# Altium schematic symbol library STMicroelectronics STM32 F3.SchLib: 37 symbols (part 4 of 5)
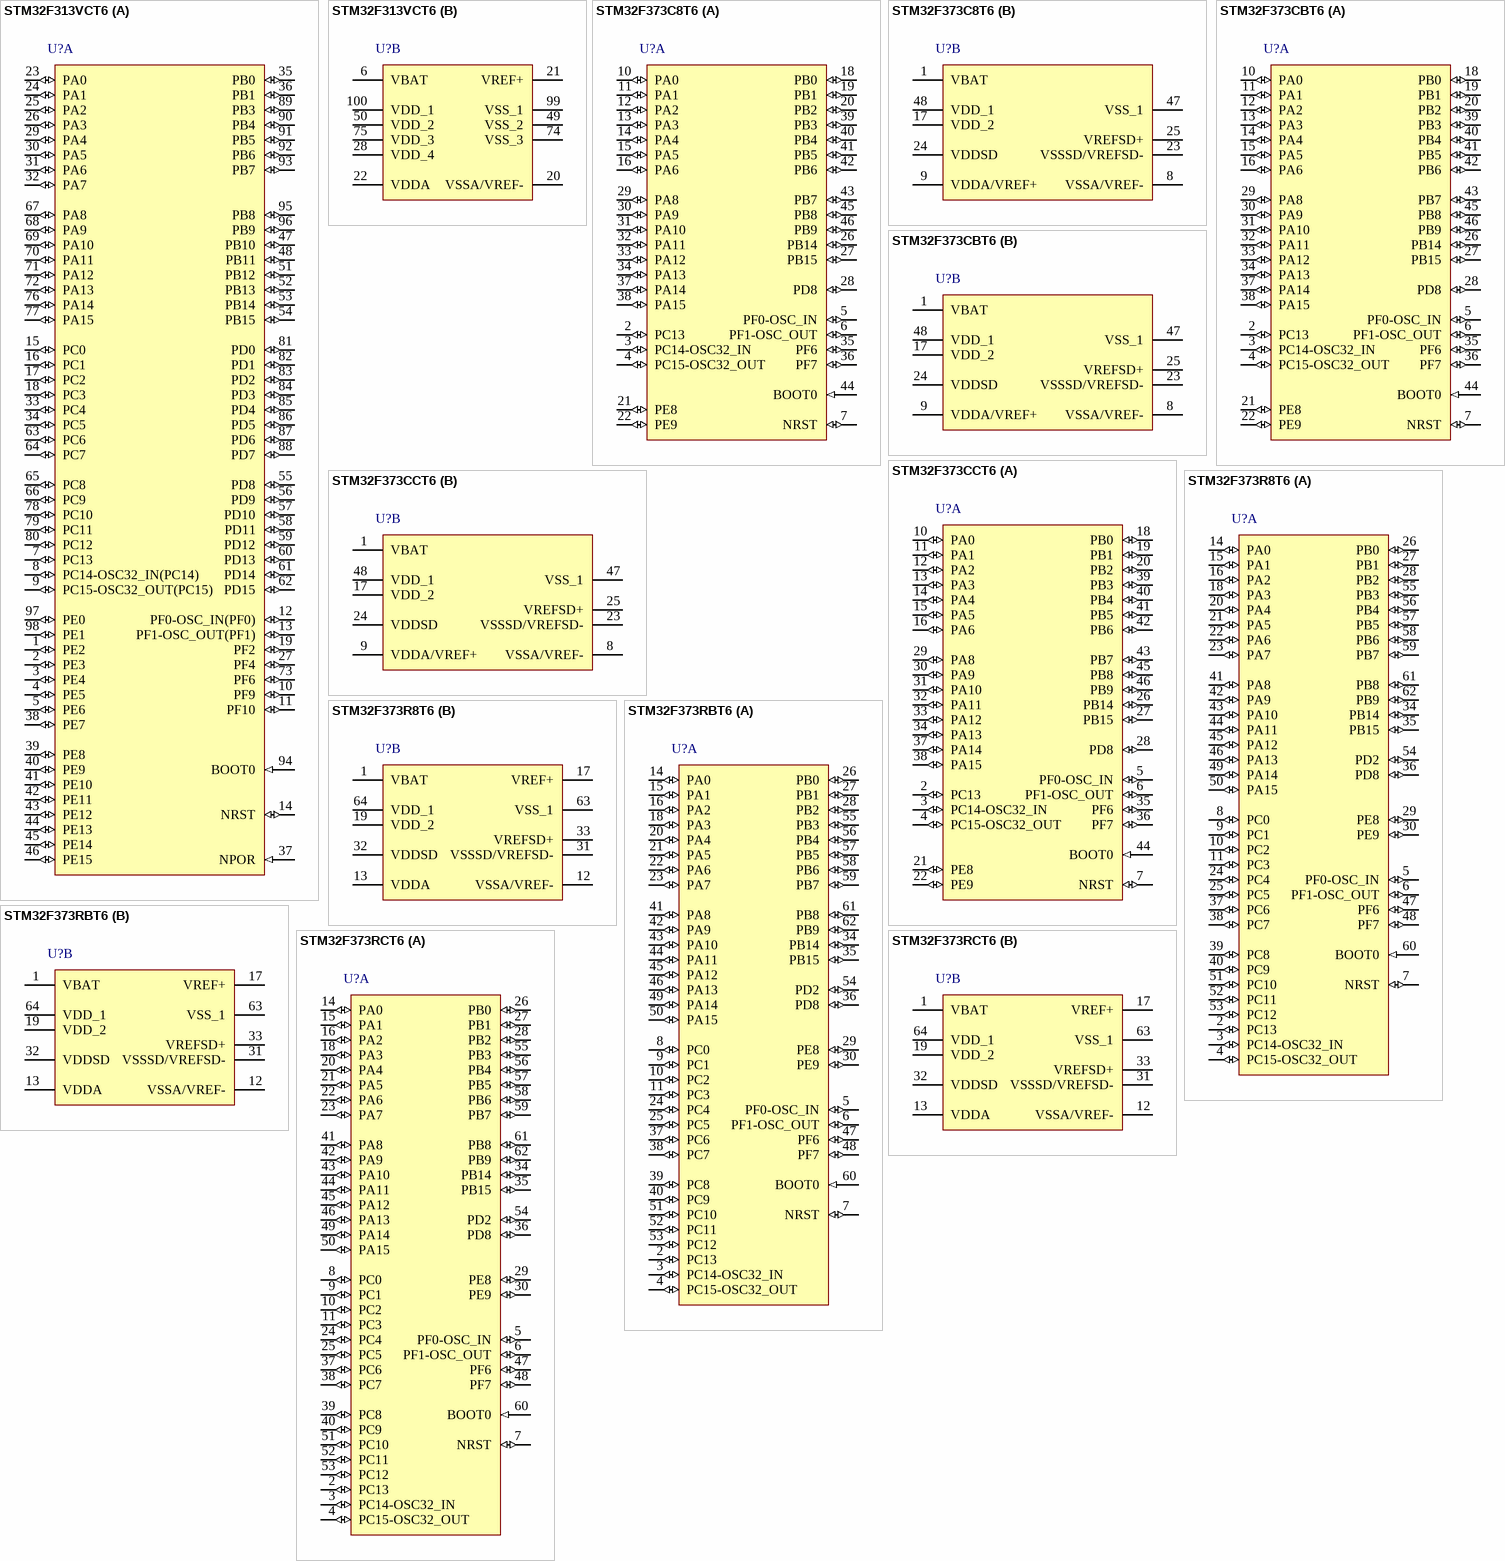
[diagram p9: symbols STM32F313VCT6 to STM32F373RCT6]

## STM32F373RCT6
designator U?
ARM Cortex-M4 32-bit MCU, 256 KB Flash, 32 KB Internal RAM, 52 I/Os, 64-pin LQFP, -40 to 85 degC, Tray
footprint STM-LQFP64_N (Thin QFP, 64-Leads, Body 10x10mm, Pitch 0.5mm, IPC Medium Density)
footprint STM-LQFP64_L (Thin QFP, 64-Leads, Body 10x10mm, Pitch 0.5mm, IPC High Density)
footprint STM-LQFP64_M (Thin QFP, 64-Leads, Body 10x10mm, Pitch 0.5mm, IPC Low Density)
footprint STM-LQFP64_V (Thin QFP, 64-Leads, Body 10x10mm, Pitch 0.5mm, ST Recommended)
part A pins: 2 PC13 (io) "PC13/WKUP2_ALARM_OUT_CALIB_OUT_TIMESTAMP,RTC_TAMPER1", 3 PC14-OSC32_IN (io) "PC14-OSC32_IN/OSC32_IN", 4 PC15-OSC32_OUT (io) "PC15-OSC32_OUT/OSC32_OUT", 5 PF0-OSC_IN (io) "PF0-OSC_IN/I2C2_SDA/OSC_IN", 6 PF1-OSC_OUT (io) "PF1-OSC_OUT/I2C2_SCL/OSC_OUT", 7 NRST (io), 8 PC0 (io) "PC0/TIM5_CH1_ETR/ADC_IN10", 9 PC1 (io) "PC1/TIM5_CH2/ADCIN11", 10 PC2 (io) "PC2/SPI2_MISO/I2S2_MCK,TIM5_CH3/ADC_IN12", 11 PC3 (io) "PC3/SPI2_MOSI/I2S2_SD,TIM5_CH4/ADC_IN13", 14 PA0 (io) "PA0/USART2_CTS,TIM2_CH1_ETR,TIM5_CH1_ETR,TIM19_CH1,TSC_G1_IO1,COMP1_OUT/RTC_TAMPER2,WKUP1,ADC_IN0,COMP1_INM", 15 PA1 (io) "PA1/SPI3_SCK/I2S3_CK,USART2_RTS,TIM2_CH2,TIM15_CH1N,TIM5_CH2,TIM19_CH2,TSC_G1_IO2/ADC_IN1,COMP1_INP,RTC_REF_CLK_IN", 16 PA2 (io) "PA2/COMP2_OUT,SPI3_MISO/I2S3_MCK,USART2_TX,TIM2_CH3,TIM15_CH1,TIM5_CH3,TIM19_CH3,TSC_G1_IO3/ADC_IN2,COMP2_INM", 18 PA3 (io) "PA3/SPI3_MOSI,I2S3_SD,USART2_RX,TIM2_CH4,TIM15_CH2,TIM5_CH4,TIM19_CH4,TSC_G1_IO4/ADC_IN3,COMP2_INP", 20 PA4 (io) "PA4/SPI1_NSS/I2S1_WS,SPI3_NSS/I2S3_WS,USART2_CK,TIM3_CH2,TIM12_CH1,TSC_G2_IO1/ADC_IN4,DAC1_OUT1", 21 PA5 (io) "PA5/SPI1_SCK/I2S1_CK,CEC,TIM2_CH1_ETR,TIM14_CH1,TIM12_CH2,TSC_G2_IO2/ADC_IN5,DAC1_OUT2", 22 PA6 (io) "PA6/SPI1_MISO/I2S1_MCK,COMP1_OUT,TIM3_CH1,TIM13_CH1,TIM16_CH1,TSC_G2_IO3/ADC_IN6,DAC2_OUT1", 23 PA7 (io) "PA7/TSC_G2_IO4,TIM14_CH1,SPI1_MOSI/I2S1_SD,TIM17_CH1,TIM3_CH2,COMP2_OUT/ADC_IN7", 24 PC4 (io) "PC4/TIM13_CH1,TSC_G3_IO1,USART1_TX/ADC_IN14", 25 PC5 (io) "PC5/TSC_G3_IO2,USART1_RX/ADC_IN15", 26 PB0 (io) "PB0/SPI1_MOSI/I2S1_SD,TIM3_CH3,TSC_G3_IO3,TIM3_CH2/ADC_IN8,SDADC1_AIN6P", 27 PB1 (io) "PB1/TIM3_CH4,TSC_G3_IO4/ADC_IN9,SDADC1_AIN5P,SDADC1_AIN6M", 28 PB2 (io) "PB2/SDADC1_AIN4P,SDADC2_AIN6P", 29 PE8 (io) "PE8/SDADC1_AIN8P,SDADC2_AIN8P", 30 PE9 (io) "PE9/SDADC1_AIN7P,SDADC1_AIN8M,SDADC2_AIN7P,SDADC2_AIN8M", 34 PB14 (io) "PB14/SPI2_MISO/I2S2_MCK,USART3_RTS,TIM15_CH1,TIM12_CH1,TSC_G6_IO1/SDADC3_AIN8P", 35 PB15 (io) "PB15/SPI2_MOSI/I2S2_SD,TIM15_CH1N,TIM15_CH2,TIM12_CH2,TSC_G6_IO2/SDADC3_AIN7P,SDADC3_AIN8M,RTC_REFCLKIN", 36 PD8 (io) "PD8/SPI2_SCK/I2S2_CK,USART3_TX,TSC_G6_IO3/SDADC3_AIN6P", 37 PC6 (io) "PC6/TIM3_CH1,SPI1_NSS/I2S1_WS", 38 PC7 (io) "PC7/TIM3_CH2,SPI1_SCK/I2S1_CK", 39 PC8 (io) "PC8/SPI1_MISO/I2S1_MCK,TIM3_CH3", 40 PC9 (io) "PC9/SPI1_MOSI/I2S1_SD,TIM3_CH4", 41 PA8 (io) "PA8/SPI2_SCK/I2S2_CK,I2C2_SMBA,USART1_CK,TIM4_ETR,TIM5_CH1_ETR,MCO", 42 PA9 (io) "PA9/SPI2_MISO/I2S2_MCK,I2C2_SCL,USART1_TX,TIM2_CH3,TIM15_BKIN,TIM13_CH1,TSC_G4_IO1", 43 PA10 (io) "PA10/SPI2_MOSI/I2S2_SD,I2C2_SDA,USART1_RX,TIM2_CH4,TIM17_BKIN,TIM14_CH1,TSC_G4_IO2", 44 PA11 (io) "PA11/SPI2_NSS/I2S2_WS,SPI1_NSS/I2S1_WS,USART1_CTS,CAN_RX,TIM4_CH1,USB_DM,TIM5_CH2,COMP1_OUT", 45 PA12 (io) "PA12/SPI1_SCK/I2S1_CK,USART1_RTS,CAN_TX,USB_DP,TIM16_CH1,TIM4_CH2,TIM5_CH3,COMP2_OUT", 46 PA13 (io) "PA13/SPI1_MISO/I2S1_MCK,USART3_CTS,IR_OUT,TIM16_CH1N,TIM4_CH3,TIM5_CH4,TSC_G4_IO3,SWDIO-JTMS", 47 PF6 (io) "PF6/SPI1_MOSI,I2S1_SD,USART3_RTS,TIM4_CH4,I2C2_SCL", 48 PF7 (io) "PF7/I2C2_SDA,USART2_CK", 49 PA14 (io) "PA14/I2C1_SDA,TIM12_CH1,TSC_G4_IO4,SWCLK-JTCK", 50 PA15 (io) "PA15/SPI1_NSS/I2S1_WS,SPI3_NSS/I2S3_WS,I2C1_SCL,TIM2_CH1_ETR,TIM12_CH2,TSC_SYNC,JTDI", 51 PC10 (io) "PC10/SPI3_SCK/I2S3_CK,USART3_TX,TIM19_CH1", 52 PC11 (io) "PC11/SPI3_MISO/I2S3_MCK,USART3_RX,TIM19_CH2", 53 PC12 (io) "PC12/SPI3_MOSI/I2S3_SD,USART3_CK,TIM19_CH3", 54 PD2 (io) "PD2/TIM3_ETR", 55 PB3 (io) "PB3/SPI1_SCK/I2S1_CK,SPI3_SCK/I2S3_CK,USART2_TX,TIM2_CH2,TIM3_ETR,TIM4_ETR,TIM13_CH1,TSC_G5_IO1,JTDO-TRACESWO", 56 PB4 (io) "PB4/SPI1_MISO/I2S1_MCK,SPI3_MISO/I2S3_MCK,USART2_RX,TIM16_CH1,TIM3_CH1,TIM17_BKIN,TIM15_CH1N,TSC_G5_IO2,NJTRST", 57 PB5 (io) "PB5/SPI1_MOSI/I2S1_SD,SPI3_MOSI/I2S3_SD,I2C1_SMBAI,USART2_CK,TIM16_BKIN,TIM3_CH2,TIM17_CH1,TIM19_ETR", 58 PB6 (io) "PB6/I2C1_SCL,USART1_TX,TIM16_CH1N,TIM3_CH3,TIM4_CH1,TIM19_CH1,TIM15_CH1,TSC_G5_IO3", 59 PB7 (io) "PB7/I2C1_SDA,USART1_RX,TIM17_CH1N,TIM3_CH4,TIM4_CH2,TIM19_CH2,TIM15_CH2,TSC_G5_IO4", 60 BOOT0 (in) "Boot memory selection", 61 PB8 (io) "PB8/SPI2_SCK/I2S2_CK,I2C1_SCL,USART3_TX,CAN_RX,CEC,TIM16_CH1,TIM4_CH3,TIM19_CH3,COMP1_OUT,TSC_SYNC", 62 PB9 (io) "PB9/SPI2_NSS/I2S2_WS,I2C1_SDA,USART3_RX,CAN_TX,IR_OUT,TIM17_CH1,TIM4_CH4,TIM19_CH4,COMP2_OUT"
part B pins: 1 VBAT (power) "Backup power supply", 12 VSSA/VREF- (power) "Analog ground", 13 VDDA (power) "Analog power supply", 17 VREF+ (power) "Reference voltage for ADC, COMP, DAC", 19 VDD_2 (power) "Digital power supply", 31 VSSSD/VREFSD- (power) "SDADC1, SDADC2, SDADC3 ground / External reference voltage for SDADC1, SDADC2, SDADC3 (negative input)", 32 VDDSD (power) "SDADC1, SDADC2, SDADC3 power supply", 33 VREFSD+ (power) "External reference voltage for SDADC1, SDADC2, SDADC3 (positive input)", 63 VSS_1 (power) "Ground", 64 VDD_1 (power) "Digital power supply"

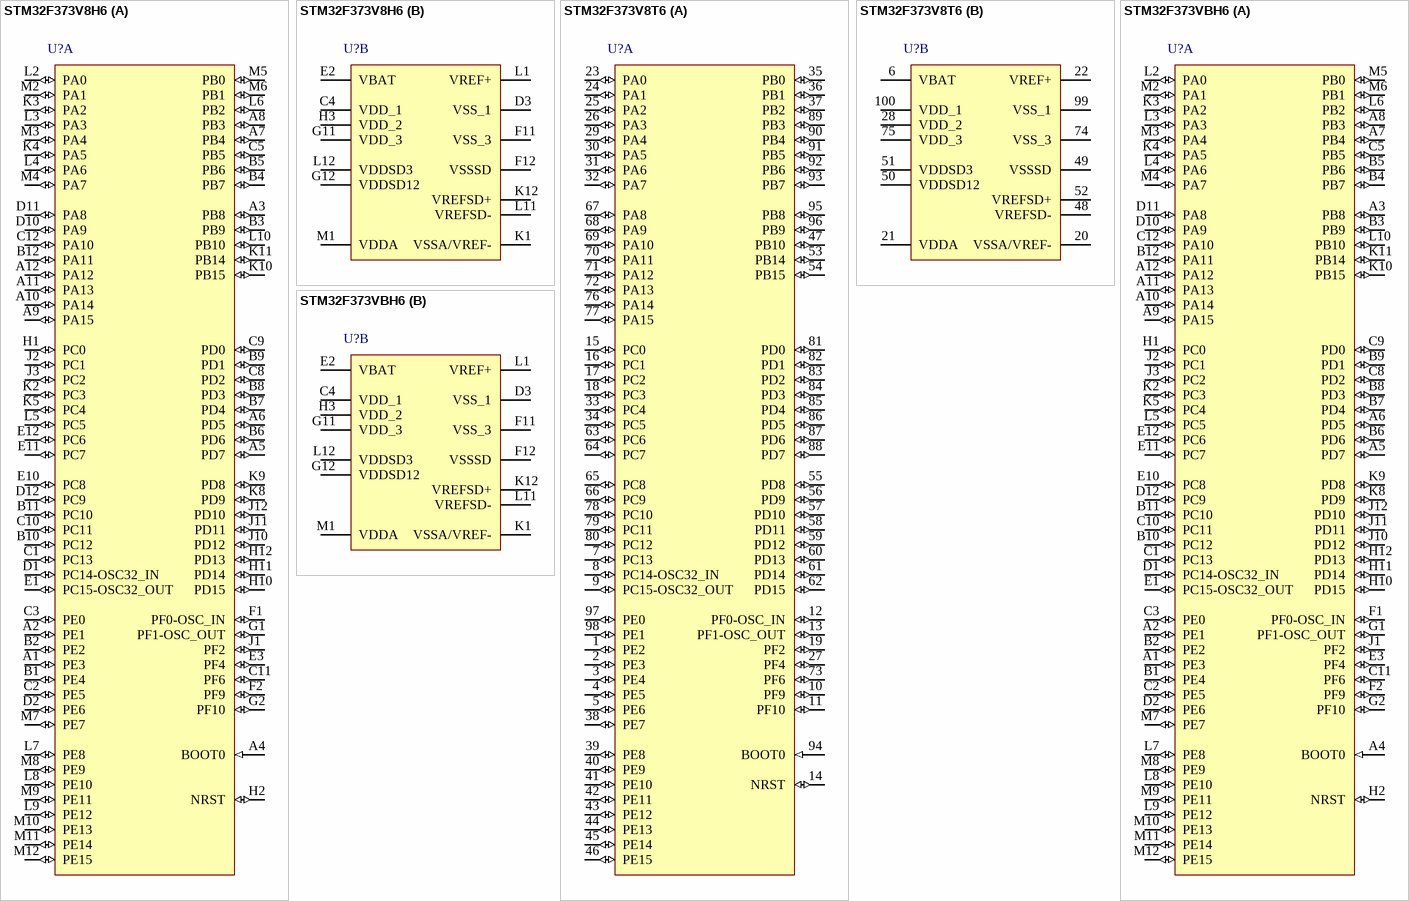
[diagram p4: symbols STM32F373V8H6 to STM32F373VBH6]

## STM32F373V8H6
designator U?
ARM Cortex-M4 32-bit MCU, 64 KB Flash, 16 KB Internal RAM, 84 I/Os, 100-pin UFBGA, -40 to 85 degC, Tray
footprint STM-UFBGA100 (BGA, 100-Balls, Body 7x7mm, Pitch 0.5mm)
part A pins: A1 PE3 (io) "PE3/TSC_G7_IO2,TRACED0", A2 PE1 (io) "PE1/USART1_RX", A3 PB8 (io) "PB8/SPI2_SCK/I2S2_CK,I2C1_SCL,USART3_TX,CAN_RX,CEC,TIM16_CH1,TIM4_CH3,TIM19_CH3,COMP1_OUT,TSC_SYNC", A4 BOOT0 (in) "Boot memory selection", A5 PD7 (io) "PD7/SPI2_SCK/I2S2_CK,USART2_CK", A6 PD5 (io) "PD5/USART2_TX", A7 PB4 (io) "PB4/SPI1_MISO/I2S1_MCK,SPI3_MISO/I2S3_MCK,USART2_RX,TIM16_CH1,TIM3_CH1,TIM17_BKIN,TIM15_CH1N,TSC_G5_IO2,NJTRST", A8 PB3 (io) "PB3/SPI1_SCK/I2S1_CK,SPI3_SCK/I2S3_CK,USART2_TX,TIM2_CH2,TIM3_ETR,TIM4_ETR,TIM13_CH1,TSC_G5_IO1,JTDO-TRACESWO", A9 PA15 (io) "PA15/SPI1_NSS/I2S1_WS,SPI3_NSS/I2S3_WS,I2C1_SCL,TIM2_CH1_ETR,TIM12_CH2,TSC_SYNC,JTDI", A10 PA14 (io) "PA14/I2C1_SDA,TIM12_CH1,TSC_G4_IO4,SWCLK-JTCK", A11 PA13 (io) "PA13/SPI1_MISO/I2S1_MCK,USART3_CTS,IR_OUT,TIM16_CH1N,TIM4_CH3,TIM5_CH4,TSC_G4_IO3,SWDIO-JTMS", A12 PA12 (io) "PA12/SPI1_SCK/I2S1_CK,USART1_RTS,CAN_TX,USB_DP,TIM16_CH1,TIM4_CH2,TIM5_CH3,COMP2_OUT", B1 PE4 (io) "PE4/TSC_G7_IO3,TRACED1", B2 PE2 (io) "PE2/TSC_G7_IO1,TRACECLK", B3 PB9 (io) "PB9/SPI2_NSS/I2S2_WS,I2C1_SDA,USART3_RX,CAN_TX,IR_OUT,TIM17_CH1,TIM4_CH4,TIM19_CH4,COMP2_OUT", B4 PB7 (io) "PB7/I2C1_SDA,USART1_RX,TIM17_CH1N,TIM3_CH4,TIM4_CH2,TIM19_CH2,TIM15_CH2,TSC_G5_IO4", B5 PB6 (io) "PB6/I2C1_SCL,USART1_TX,TIM16_CH1N,TIM3_CH3,TIM4_CH1,TIM19_CH1,TIM15_CH1,TSC_G5_IO3", B6 PD6 (io) "PD6/SPI2_NSS/I2S2_WS,USART2_RX", B7 PD4 (io) "PD4/SPI2_MOSI/I2S2_SD,USART2_RTS", B8 PD3 (io) "PD3/SPI2_MISO/I2S2_MCK,USART2_CTS", B9 PD1 (io) "PD1/CAN_TX,TIM19_ETR", B10 PC12 (io) "PC12/SPI3_MOSI/I2S3_SD,USART3_CK,TIM19_CH3", B11 PC10 (io) "PC10/SPI3_SCK/I2S3_CK,USART3_TX,TIM19_CH1", B12 PA11 (io) "PA11/SPI2_NSS/I2S2_WS,SPI1_NSS/I2S1_WS,USART1_CTS,CAN_RX,TIM4_CH1,USB_DM,TIM5_CH2,COMP1_OUT", C1 PC13 (io) "PC13/WKUP2_ALARM_OUT_CALIB_OUT_TIMESTAMP,RTC_TAMPER1", C2 PE5 (io) "PE5/TSC_G7_IO4,TRACED2", C3 PE0 (io) "PE0/USART1_TX,TIM4_ETR", C5 PB5 (io) "PB5/SPI1_MOSI/I2S1_SD,SPI3_MOSI/I2S3_SD,I2C1_SMBAI,USART2_CK,TIM16_BKIN,TIM3_CH2,TIM17_CH1,TIM19_ETR", C8 PD2 (io) "PD2/TIM3_ETR", C9 PD0 (io) "PD0/CAN_RX,TIM19_CH4", C10 PC11 (io) "PC11/SPI3_MISO/I2S3_MCK,USART3_RX,TIM19_CH2", C11 PF6 (io) "PF6/SPI1_MOSI,I2S1_SD,USART3_RTS,TIM4_CH4,I2C2_SCL", C12 PA10 (io) "PA10/SPI2_MOSI/I2S2_SD,I2C2_SDA,USART1_RX,TIM2_CH4,TIM17_BKIN,TIM14_CH1,TSC_G4_IO2", D1 PC14-OSC32_IN (io) "PC14-OSC32_IN/OSC32_IN", D2 PE6 (io) "PE6/TRACED3/WKUP3,RTC_TAMPER3", D10 PA9 (io) "PA9/SPI2_MISO/I2S2_MCK,I2C2_SCL,USART1_TX,TIM2_CH3,TIM15_BKIN,TIM13_CH1,TSC_G4_IO1", D11 PA8 (io) "PA8/SPI2_SCK/I2S2_CK,I2C2_SMBA,USART1_CK,TIM4_ETR,TIM5_CH1_ETR,MCO", D12 PC9 (io) "PC9/SPI1_MOSI/I2S1_SD,TIM3_CH4", E1 PC15-OSC32_OUT (io) "PC15-OSC32_OUT/OSC32_OUT", E3 PF4 (io), E10 PC8 (io) "PC8/SPI1_MISO/I2S1_MCK,TIM3_CH3", E11 PC7 (io) "PC7/TIM3_CH2,SPI1_SCK/I2S1_CK", E12 PC6 (io) "PC6/TIM3_CH1,SPI1_NSS/I2S1_WS", F1 PF0-OSC_IN (io) "PF0-OSC_IN/I2C2_SDA/OSC_IN", F2 PF9 (io) "PF9/TIM14_CH1", G1 PF1-OSC_OUT (io) "VSSSD", G2 PF10 (io) "PF1-OSC_OUT/I2C2_SCL/OSC_OUT", H1 PC0 (io) "PC0/TIM5_CH1_ETR/ADC_IN10", H2 NRST (io) "Device reset input / internal reset output (active low)", H10 PD15 (io) "PD15/TIM4_CH4,TSC_G8_IO4/SDADC3_AIN0M", H11 PD14 (io) "PD14/TIM4_CH3,TSC_G8_IO3/SDADC3_AIN0P", H12 PD13 (io) "PD13/TIM4_CH2,TSC_G8_IO2/SDADC3_AIN1P,SDADC3_AIN2M", J1 PF2 (io) "PF2/I2C2_SMBA", J2 PC1 (io) "PC1/TIM5_CH2/ADCIN11", J3 PC2 (io) "PC2/SPI2_MISO/I2S2_MCK,TIM5_CH3/ADC_IN12", J10 PD12 (io) "PD12/USART3_RTS,TIM4_CH1,TSC_G8_IO1/SDADC3_AIN2P", J11 PD11 (io) "PD11/USART3_CTS/SDADC3_AIN3P,SDADC3_AIN4M", J12 PD10 (io) "PD10/USART3_CK/SDADC3_AIN4P", K2 PC3 (io) "PC3/SPI2_MOSI/I2S2_SD,TIM5_CH4/ADC_IN13", K3 PA2 (io) "PA2/COMP2_OUT,SPI3_MISO/I2S3_MCK,USART2_TX,TIM2_CH3,TIM15_CH1,TIM5_CH3,TIM19_CH3,TSC_G1_IO3/ADC_IN2,COMP2_INM", K4 PA5 (io) "PA5/SPI1_SCK/I2S1_CK,CEC,TIM2_CH1_ETR,TIM14_CH1,TIM12_CH2,TSC_G2_IO2/ADC_IN5,DAC1_OUT2", K5 PC4 (io) "PC4/TIM13_CH1,TSC_G3_IO1,USART1_TX/ADC_IN14", K8 PD9 (io) "PD9/USART3_RX,TSC_G6_IO4/SDADC3_AIN5P,SDADC3_AIN6M", K9 PD8 (io) "PD8/SPI2_SCK/I2S2_CK,USART3_TX,TSC_G6_IO3/SDADC3_AIN6P", K10 PB15 (io) "PB15/SPI2_MOSI/I2S2_SD,TIM15_CH1N,TIM15_CH2,TIM12_CH2,TSC_G6_IO2/SDADC3_AIN7P,SDADC3_AIN8M,RTC_REFCLKIN", K11 PB14 (io) "PB14/SPI2_MISO/I2S2_MCK,USART3_RTS,TIM15_CH1,TIM12_CH1,TSC_G6_IO1/SDADC3_AIN8P", L2 PA0 (io) "PA0/USART2_CTS,TIM2_CH1_ETR,TIM5_CH1_ETR,TIM19_CH1,TSC_G1_IO1,COMP1_OUT/RTC_TAMPER2,WKUP1,ADC_IN0,COMP1_INM", L3 PA3 (io) "PA3/SPI3_MOSI,I2S3_SD,USART2_RX,TIM2_CH4,TIM15_CH2,TIM5_CH4,TIM19_CH4,TSC_G1_IO4/ADC_IN3,COMP2_INP", L4 PA6 (io) "PA6/SPI1_MISO/I2S1_MCK,COMP1_OUT,TIM3_CH1,TIM13_CH1,TIM16_CH1,TSC_G2_IO3/ADC_IN6,DAC2_OUT1", L5 PC5 (io) "PC5/TSC_G3_IO2,USART1_RX/ADC_IN15", L6 PB2 (io) "PB2/SDADC1_AIN4P,SDADC2_AIN6P", L7 PE8 (io) "PE8/SDADC1_AIN8P,SDADC2_AIN8P", L8 PE10 (io) "PE10/SDADC1_AIN2P", L9 PE12 (io) "PE12/SDADC1_AIN0P,SDADC2_AIN3P,SDADC2_AIN4M", L10 PB10 (io) "PB10/SPI2_SCK/I2S2_CK,USART3_TX,CEC,TSC_SYNC,TIM2_CH3/SDADC2_AIN0M", M2 PA1 (io) "PA1/SPI3_SCK/I2S3_CK,USART2_RTS,TIM2_CH2,TIM15_CH1N,TIM5_CH2,TIM19_CH2,TSC_G1_IO2/ADC_IN1,COMP1_INP,RTC_REF_CLK_IN", M3 PA4 (io) "PA4/SPI1_NSS/I2S1_WS,SPI3_NSS/I2S3_WS,USART2_CK,TIM3_CH2,TIM12_CH1,TSC_G2_IO1/ADC_IN4,DAC1_OUT1", M4 PA7 (io) "PA7/TSC_G2_IO4,TIM14_CH1,SPI1_MOSI/I2S1_SD,TIM17_CH1,TIM3_CH2,COMP2_OUT/ADC_IN7", M5 PB0 (io) "PB0/SPI1_MOSI/I2S1_SD,TIM3_CH3,TSC_G3_IO3,TIM3_CH2/ADC_IN8,SDADC1_AIN6P", M6 PB1 (io) "PB1/TIM3_CH4,TSC_G3_IO4/ADC_IN9,SDADC1_AIN5P,SDADC1_AIN6M", M7 PE7 (io) "PE7/SDADC1_AIN3P,SDADC1_AIN4M,SDADC2_AIN5P,SDADC2_AIN6M", M8 PE9 (io) "PE9/SDADC1_AIN7P,SDADC1_AIN8M,SDADC2_AIN7P,SDADC2_AIN8M", M9 PE11 (io) "PE11/SDADC1_AIN1P,SDADC1_AIN2M,SDADC2_AIN4P", M10 PE13 (io) "PE13/SDADC1_AIN0M,SDADC2_AIN2P", M11 PE14 (io) "PE14/SDADC2_AIN1P,SDADC2_AIN2M", M12 PE15 (io) "PE15/USART3_RX/SDADC2_AIN0P"
part B pins: C4 VDD_1 (power) "Digital power supply", D3 VSS_1 (power) "Ground", E2 VBAT (power) "Backup power supply", F11 VSS_3 (power) "Ground", F12 VSSSD (power) "VSS_3", G11 VDD_3 (power) "PF10", G12 VDDSD12 (power) "SDADC1 and SDADC2 power supply", H3 VDD_2 (power) "Digital power supply", K1 VSSA/VREF- (power) "Analog ground", K12 VREFSD+ (power) "External reference voltage for SDADC1, SDADC2, SDADC3 (positive input)", L1 VREF+ (power) "Reference voltage for ADC, COMP, DAC", L11 VREFSD- (power), L12 VDDSD3 (power) "SDADC3 power supply", M1 VDDA (power) "Analog power supply"

## STM32F373V8T6
designator U?
ARM Cortex-M4 32-bit MCU, 64 KB Flash, 16 KB Internal RAM, 84 I/Os, 100-pin LQFP, -40 to 85 degC, Tray
footprint STM-LQFP100_N (Thin QFP, 100-Leads, Body 14x14mm, Pitch 0.5mm, IPC Medium Density)
footprint STM-LQFP100_L (Thin QFP, 100-Leads, Body 14x14mm, Pitch 0.5mm, IPC High Density)
footprint STM-LQFP100_M (Thin QFP, 100-Leads, Body 14x14mm, Pitch 0.5mm, IPC Low Density)
footprint STM-LQFP100_V (Thin QFP, 100-Leads, Body 14x14mm, Pitch 0.5mm, ST Recommended)
part A pins: 1 PE2 (io) "PE2/TSC_G7_IO1,TRACECLK", 2 PE3 (io) "PE3/TSC_G7_IO2,TRACED0", 3 PE4 (io) "PE4/TSC_G7_IO3,TRACED1", 4 PE5 (io) "PE5/TSC_G7_IO4,TRACED2", 5 PE6 (io) "PE6/TRACED3/WKUP3,RTC_TAMPER3", 7 PC13 (io) "PC13/WKUP2_ALARM_OUT_CALIB_OUT_TIMESTAMP,RTC_TAMPER1", 8 PC14-OSC32_IN (io) "PC14-OSC32_IN/OSC32_IN", 9 PC15-OSC32_OUT (io) "PC15-OSC32_OUT/OSC32_OUT", 10 PF9 (io) "PF9/TIM14_CH1", 11 PF10 (io), 12 PF0-OSC_IN (io) "PF0-OSC_IN/I2C2_SDA/OSC_IN", 13 PF1-OSC_OUT (io) "PF1-OSC_OUT/I2C2_SCL/OSC_OUT", 14 NRST (io) "Device reset input / internal reset output (active low)", 15 PC0 (io) "PC0/TIM5_CH1_ETR/ADC_IN10", 16 PC1 (io) "PC1/TIM5_CH2/ADCIN11", 17 PC2 (io) "PC2/SPI2_MISO/I2S2_MCK,TIM5_CH3/ADC_IN12", 18 PC3 (io) "PC3/SPI2_MOSI/I2S2_SD,TIM5_CH4/ADC_IN13", 19 PF2 (io) "PF2/I2C2_SMBA", 23 PA0 (io) "PA0/USART2_CTS,TIM2_CH1_ETR,TIM5_CH1_ETR,TIM19_CH1,TSC_G1_IO1,COMP1_OUT/RTC_TAMPER2,WKUP1,ADC_IN0,COMP1_INM", 24 PA1 (io) "PA1/SPI3_SCK/I2S3_CK,USART2_RTS,TIM2_CH2,TIM15_CH1N,TIM5_CH2,TIM19_CH2,TSC_G1_IO2/ADC_IN1,COMP1_INP,RTC_REF_CLK_IN", 25 PA2 (io) "PA2/COMP2_OUT,SPI3_MISO/I2S3_MCK,USART2_TX,TIM2_CH3,TIM15_CH1,TIM5_CH3,TIM19_CH3,TSC_G1_IO3/ADC_IN2,COMP2_INM", 26 PA3 (io) "PA3/SPI3_MOSI,I2S3_SD,USART2_RX,TIM2_CH4,TIM15_CH2,TIM5_CH4,TIM19_CH4,TSC_G1_IO4/ADC_IN3,COMP2_INP", 27 PF4 (io), 29 PA4 (io) "PA4/SPI1_NSS/I2S1_WS,SPI3_NSS/I2S3_WS,USART2_CK,TIM3_CH2,TIM12_CH1,TSC_G2_IO1/ADC_IN4,DAC1_OUT1", 30 PA5 (io) "PA5/SPI1_SCK/I2S1_CK,CEC,TIM2_CH1_ETR,TIM14_CH1,TIM12_CH2,TSC_G2_IO2/ADC_IN5,DAC1_OUT2", 31 PA6 (io) "PA6/SPI1_MISO/I2S1_MCK,COMP1_OUT,TIM3_CH1,TIM13_CH1,TIM16_CH1,TSC_G2_IO3/ADC_IN6,DAC2_OUT1", 32 PA7 (io) "PA7/TSC_G2_IO4,TIM14_CH1,SPI1_MOSI/I2S1_SD,TIM17_CH1,TIM3_CH2,COMP2_OUT/ADC_IN7", 33 PC4 (io) "PC4/TIM13_CH1,TSC_G3_IO1,USART1_TX/ADC_IN14", 34 PC5 (io) "PC5/TSC_G3_IO2,USART1_RX/ADC_IN15", 35 PB0 (io) "PB0/SPI1_MOSI/I2S1_SD,TIM3_CH3,TSC_G3_IO3,TIM3_CH2/ADC_IN8,SDADC1_AIN6P", 36 PB1 (io) "PB1/TIM3_CH4,TSC_G3_IO4/ADC_IN9,SDADC1_AIN5P,SDADC1_AIN6M", 37 PB2 (io) "PB2/SDADC1_AIN4P,SDADC2_AIN6P", 38 PE7 (io) "PE7/SDADC1_AIN3P,SDADC1_AIN4M,SDADC2_AIN5P,SDADC2_AIN6M", 39 PE8 (io) "PE8/SDADC1_AIN8P,SDADC2_AIN8P", 40 PE9 (io) "PE9/SDADC1_AIN7P,SDADC1_AIN8M,SDADC2_AIN7P,SDADC2_AIN8M", 41 PE10 (io) "PE10/SDADC1_AIN2P", 42 PE11 (io) "PE11/SDADC1_AIN1P,SDADC1_AIN2M,SDADC2_AIN4P", 43 PE12 (io) "PE12/SDADC1_AIN0P,SDADC2_AIN3P,SDADC2_AIN4M", 44 PE13 (io) "PE13/SDADC1_AIN0M,SDADC2_AIN2P", 45 PE14 (io) "PE14/SDADC2_AIN1P,SDADC2_AIN2M", 46 PE15 (io) "PE15/USART3_RX/SDADC2_AIN0P", 47 PB10 (io) "PB10/SPI2_SCK/I2S2_CK,USART3_TX,CEC,TSC_SYNC,TIM2_CH3/SDADC2_AIN0M", 53 PB14 (io) "PB14/SPI2_MISO/I2S2_MCK,USART3_RTS,TIM15_CH1,TIM12_CH1,TSC_G6_IO1/SDADC3_AIN8P", 54 PB15 (io) "PB15/SPI2_MOSI/I2S2_SD,TIM15_CH1N,TIM15_CH2,TIM12_CH2,TSC_G6_IO2/SDADC3_AIN7P,SDADC3_AIN8M,RTC_REFCLKIN", 55 PD8 (io) "PD8/SPI2_SCK/I2S2_CK,USART3_TX,TSC_G6_IO3/SDADC3_AIN6P", 56 PD9 (io) "PD9/USART3_RX,TSC_G6_IO4/SDADC3_AIN5P,SDADC3_AIN6M", 57 PD10 (io) "PD10/USART3_CK/SDADC3_AIN4P", 58 PD11 (io) "PD11/USART3_CTS/SDADC3_AIN3P,SDADC3_AIN4M", 59 PD12 (io) "PD12/USART3_RTS,TIM4_CH1,TSC_G8_IO1/SDADC3_AIN2P", 60 PD13 (io) "PD13/TIM4_CH2,TSC_G8_IO2/SDADC3_AIN1P,SDADC3_AIN2M", 61 PD14 (io) "PD14/TIM4_CH3,TSC_G8_IO3/SDADC3_AIN0P", 62 PD15 (io) "PD15/TIM4_CH4,TSC_G8_IO4/SDADC3_AIN0M", 63 PC6 (io) "PC6/TIM3_CH1,SPI1_NSS/I2S1_WS", 64 PC7 (io) "PC7/TIM3_CH2,SPI1_SCK/I2S1_CK", 65 PC8 (io) "PC8/SPI1_MISO/I2S1_MCK,TIM3_CH3", 66 PC9 (io) "PC9/SPI1_MOSI/I2S1_SD,TIM3_CH4", 67 PA8 (io) "PA8/SPI2_SCK/I2S2_CK,I2C2_SMBA,USART1_CK,TIM4_ETR,TIM5_CH1_ETR,MCO", 68 PA9 (io) "PA9/SPI2_MISO/I2S2_MCK,I2C2_SCL,USART1_TX,TIM2_CH3,TIM15_BKIN,TIM13_CH1,TSC_G4_IO1", 69 PA10 (io) "PA10/SPI2_MOSI/I2S2_SD,I2C2_SDA,USART1_RX,TIM2_CH4,TIM17_BKIN,TIM14_CH1,TSC_G4_IO2", 70 PA11 (io) "PA11/SPI2_NSS/I2S2_WS,SPI1_NSS/I2S1_WS,USART1_CTS,CAN_RX,TIM4_CH1,USB_DM,TIM5_CH2,COMP1_OUT", 71 PA12 (io) "PA12/SPI1_SCK/I2S1_CK,USART1_RTS,CAN_TX,USB_DP,TIM16_CH1,TIM4_CH2,TIM5_CH3,COMP2_OUT", 72 PA13 (io) "PA13/SPI1_MISO/I2S1_MCK,USART3_CTS,IR_OUT,TIM16_CH1N,TIM4_CH3,TIM5_CH4,TSC_G4_IO3,SWDIO-JTMS", 73 PF6 (io) "PF6/SPI1_MOSI,I2S1_SD,USART3_RTS,TIM4_CH4,I2C2_SCL", 76 PA14 (io) "PA14/I2C1_SDA,TIM12_CH1,TSC_G4_IO4,SWCLK-JTCK", 77 PA15 (io) "PA15/SPI1_NSS/I2S1_WS,SPI3_NSS/I2S3_WS,I2C1_SCL,TIM2_CH1_ETR,TIM12_CH2,TSC_SYNC,JTDI", 78 PC10 (io) "PC10/SPI3_SCK/I2S3_CK,USART3_TX,TIM19_CH1", 79 PC11 (io) "PC11/SPI3_MISO/I2S3_MCK,USART3_RX,TIM19_CH2", 80 PC12 (io) "PC12/SPI3_MOSI/I2S3_SD,USART3_CK,TIM19_CH3", 81 PD0 (io) "PD0/CAN_RX,TIM19_CH4", 82 PD1 (io) "PD1/CAN_TX,TIM19_ETR", 83 PD2 (io) "PD2/TIM3_ETR", 84 PD3 (io) "PD3/SPI2_MISO/I2S2_MCK,USART2_CTS", 85 PD4 (io) "PD4/SPI2_MOSI/I2S2_SD,USART2_RTS", 86 PD5 (io) "PD5/USART2_TX", 87 PD6 (io) "PD6/SPI2_NSS/I2S2_WS,USART2_RX", 88 PD7 (io) "PD7/SPI2_SCK/I2S2_CK,USART2_CK", 89 PB3 (io) "PB3/SPI1_SCK/I2S1_CK,SPI3_SCK/I2S3_CK,USART2_TX,TIM2_CH2,TIM3_ETR,TIM4_ETR,TIM13_CH1,TSC_G5_IO1,JTDO-TRACESWO", 90 PB4 (io) "PB4/SPI1_MISO/I2S1_MCK,SPI3_MISO/I2S3_MCK,USART2_RX,TIM16_CH1,TIM3_CH1,TIM17_BKIN,TIM15_CH1N,TSC_G5_IO2,NJTRST", 91 PB5 (io) "PB5/SPI1_MOSI/I2S1_SD,SPI3_MOSI/I2S3_SD,I2C1_SMBAI,USART2_CK,TIM16_BKIN,TIM3_CH2,TIM17_CH1,TIM19_ETR", 92 PB6 (io) "PB6/I2C1_SCL,USART1_TX,TIM16_CH1N,TIM3_CH3,TIM4_CH1,TIM19_CH1,TIM15_CH1,TSC_G5_IO3", 93 PB7 (io) "PB7/I2C1_SDA,USART1_RX,TIM17_CH1N,TIM3_CH4,TIM4_CH2,TIM19_CH2,TIM15_CH2,TSC_G5_IO4", 94 BOOT0 (in) "Boot memory selection", 95 PB8 (io) "PB8/SPI2_SCK/I2S2_CK,I2C1_SCL,USART3_TX,CAN_RX,CEC,TIM16_CH1,TIM4_CH3,TIM19_CH3,COMP1_OUT,TSC_SYNC", 96 PB9 (io) "PB9/SPI2_NSS/I2S2_WS,I2C1_SDA,USART3_RX,CAN_TX,IR_OUT,TIM17_CH1,TIM4_CH4,TIM19_CH4,COMP2_OUT", 97 PE0 (io) "PE0/USART1_TX,TIM4_ETR", 98 PE1 (io) "PE1/USART1_RX"
part B pins: 6 VBAT (power) "Backup power supply", 20 VSSA/VREF- (power) "Analog ground", 21 VDDA (power) "Analog power supply", 22 VREF+ (power) "Reference voltage for ADC, COMP, DAC", 28 VDD_2 (power) "Digital power supply", 48 VREFSD- (power) "External reference voltage for SDADC1, SDADC2, SDADC3 (negative input)", 49 VSSSD (power) "SDADC1, SDADC2, SDADC3 ground", 50 VDDSD12 (power) "SDADC1 and SDADC2 power supply", 51 VDDSD3 (power) "SDADC3 power supply", 52 VREFSD+ (power) "External reference voltage for SDADC1, SDADC2, SDADC3 (positive input)", 74 VSS_3 (power) "Ground", 75 VDD_3 (power) "Digital power supply", 99 VSS_1 (power) "Ground", 100 VDD_1 (power) "Digital power supply"

## STM32F373VBH6
designator U?
ARM Cortex-M4 32-bit MCU, 128 KB Flash, 24 KB Internal RAM, 84 I/Os, 100-pin UFBGA, -40 to 85 degC, Tray
footprint STM-UFBGA100 (BGA, 100-Balls, Body 7x7mm, Pitch 0.5mm)
part A pins: A1 PE3 (io) "PE3/TSC_G7_IO2,TRACED0", A2 PE1 (io) "PE1/USART1_RX", A3 PB8 (io) "PB8/SPI2_SCK/I2S2_CK,I2C1_SCL,USART3_TX,CAN_RX,CEC,TIM16_CH1,TIM4_CH3,TIM19_CH3,COMP1_OUT,TSC_SYNC", A4 BOOT0 (in) "Boot memory selection", A5 PD7 (io) "PD7/SPI2_SCK/I2S2_CK,USART2_CK", A6 PD5 (io) "PD5/USART2_TX", A7 PB4 (io) "PB4/SPI1_MISO/I2S1_MCK,SPI3_MISO/I2S3_MCK,USART2_RX,TIM16_CH1,TIM3_CH1,TIM17_BKIN,TIM15_CH1N,TSC_G5_IO2,NJTRST", A8 PB3 (io) "PB3/SPI1_SCK/I2S1_CK,SPI3_SCK/I2S3_CK,USART2_TX,TIM2_CH2,TIM3_ETR,TIM4_ETR,TIM13_CH1,TSC_G5_IO1,JTDO-TRACESWO", A9 PA15 (io) "PA15/SPI1_NSS/I2S1_WS,SPI3_NSS/I2S3_WS,I2C1_SCL,TIM2_CH1_ETR,TIM12_CH2,TSC_SYNC,JTDI", A10 PA14 (io) "PA14/I2C1_SDA,TIM12_CH1,TSC_G4_IO4,SWCLK-JTCK", A11 PA13 (io) "PA13/SPI1_MISO/I2S1_MCK,USART3_CTS,IR_OUT,TIM16_CH1N,TIM4_CH3,TIM5_CH4,TSC_G4_IO3,SWDIO-JTMS", A12 PA12 (io) "PA12/SPI1_SCK/I2S1_CK,USART1_RTS,CAN_TX,USB_DP,TIM16_CH1,TIM4_CH2,TIM5_CH3,COMP2_OUT", B1 PE4 (io) "PE4/TSC_G7_IO3,TRACED1", B2 PE2 (io) "PE2/TSC_G7_IO1,TRACECLK", B3 PB9 (io) "PB9/SPI2_NSS/I2S2_WS,I2C1_SDA,USART3_RX,CAN_TX,IR_OUT,TIM17_CH1,TIM4_CH4,TIM19_CH4,COMP2_OUT", B4 PB7 (io) "PB7/I2C1_SDA,USART1_RX,TIM17_CH1N,TIM3_CH4,TIM4_CH2,TIM19_CH2,TIM15_CH2,TSC_G5_IO4", B5 PB6 (io) "PB6/I2C1_SCL,USART1_TX,TIM16_CH1N,TIM3_CH3,TIM4_CH1,TIM19_CH1,TIM15_CH1,TSC_G5_IO3", B6 PD6 (io) "PD6/SPI2_NSS/I2S2_WS,USART2_RX", B7 PD4 (io) "PD4/SPI2_MOSI/I2S2_SD,USART2_RTS", B8 PD3 (io) "PD3/SPI2_MISO/I2S2_MCK,USART2_CTS", B9 PD1 (io) "PD1/CAN_TX,TIM19_ETR", B10 PC12 (io) "PC12/SPI3_MOSI/I2S3_SD,USART3_CK,TIM19_CH3", B11 PC10 (io) "PC10/SPI3_SCK/I2S3_CK,USART3_TX,TIM19_CH1", B12 PA11 (io) "PA11/SPI2_NSS/I2S2_WS,SPI1_NSS/I2S1_WS,USART1_CTS,CAN_RX,TIM4_CH1,USB_DM,TIM5_CH2,COMP1_OUT", C1 PC13 (io) "PC13/WKUP2_ALARM_OUT_CALIB_OUT_TIMESTAMP,RTC_TAMPER1", C2 PE5 (io) "PE5/TSC_G7_IO4,TRACED2", C3 PE0 (io) "PE0/USART1_TX,TIM4_ETR", C5 PB5 (io) "PB5/SPI1_MOSI/I2S1_SD,SPI3_MOSI/I2S3_SD,I2C1_SMBAI,USART2_CK,TIM16_BKIN,TIM3_CH2,TIM17_CH1,TIM19_ETR", C8 PD2 (io) "PD2/TIM3_ETR", C9 PD0 (io) "PD0/CAN_RX,TIM19_CH4", C10 PC11 (io) "PC11/SPI3_MISO/I2S3_MCK,USART3_RX,TIM19_CH2", C11 PF6 (io) "PF6/SPI1_MOSI,I2S1_SD,USART3_RTS,TIM4_CH4,I2C2_SCL", C12 PA10 (io) "PA10/SPI2_MOSI/I2S2_SD,I2C2_SDA,USART1_RX,TIM2_CH4,TIM17_BKIN,TIM14_CH1,TSC_G4_IO2", D1 PC14-OSC32_IN (io) "PC14-OSC32_IN/OSC32_IN", D2 PE6 (io) "PE6/TRACED3/WKUP3,RTC_TAMPER3", D10 PA9 (io) "PA9/SPI2_MISO/I2S2_MCK,I2C2_SCL,USART1_TX,TIM2_CH3,TIM15_BKIN,TIM13_CH1,TSC_G4_IO1", D11 PA8 (io) "PA8/SPI2_SCK/I2S2_CK,I2C2_SMBA,USART1_CK,TIM4_ETR,TIM5_CH1_ETR,MCO", D12 PC9 (io) "PC9/SPI1_MOSI/I2S1_SD,TIM3_CH4", E1 PC15-OSC32_OUT (io) "PC15-OSC32_OUT/OSC32_OUT", E3 PF4 (io), E10 PC8 (io) "PC8/SPI1_MISO/I2S1_MCK,TIM3_CH3", E11 PC7 (io) "PC7/TIM3_CH2,SPI1_SCK/I2S1_CK", E12 PC6 (io) "PC6/TIM3_CH1,SPI1_NSS/I2S1_WS", F1 PF0-OSC_IN (io) "PF0-OSC_IN/I2C2_SDA/OSC_IN", F2 PF9 (io) "PF9/TIM14_CH1", G1 PF1-OSC_OUT (io) "VSSSD", G2 PF10 (io) "PF1-OSC_OUT/I2C2_SCL/OSC_OUT", H1 PC0 (io) "PC0/TIM5_CH1_ETR/ADC_IN10", H2 NRST (io) "Device reset input / internal reset output (active low)", H10 PD15 (io) "PD15/TIM4_CH4,TSC_G8_IO4/SDADC3_AIN0M", H11 PD14 (io) "PD14/TIM4_CH3,TSC_G8_IO3/SDADC3_AIN0P", H12 PD13 (io) "PD13/TIM4_CH2,TSC_G8_IO2/SDADC3_AIN1P,SDADC3_AIN2M", J1 PF2 (io) "PF2/I2C2_SMBA", J2 PC1 (io) "PC1/TIM5_CH2/ADCIN11", J3 PC2 (io) "PC2/SPI2_MISO/I2S2_MCK,TIM5_CH3/ADC_IN12", J10 PD12 (io) "PD12/USART3_RTS,TIM4_CH1,TSC_G8_IO1/SDADC3_AIN2P", J11 PD11 (io) "PD11/USART3_CTS/SDADC3_AIN3P,SDADC3_AIN4M", J12 PD10 (io) "PD10/USART3_CK/SDADC3_AIN4P", K2 PC3 (io) "PC3/SPI2_MOSI/I2S2_SD,TIM5_CH4/ADC_IN13", K3 PA2 (io) "PA2/COMP2_OUT,SPI3_MISO/I2S3_MCK,USART2_TX,TIM2_CH3,TIM15_CH1,TIM5_CH3,TIM19_CH3,TSC_G1_IO3/ADC_IN2,COMP2_INM", K4 PA5 (io) "PA5/SPI1_SCK/I2S1_CK,CEC,TIM2_CH1_ETR,TIM14_CH1,TIM12_CH2,TSC_G2_IO2/ADC_IN5,DAC1_OUT2", K5 PC4 (io) "PC4/TIM13_CH1,TSC_G3_IO1,USART1_TX/ADC_IN14", K8 PD9 (io) "PD9/USART3_RX,TSC_G6_IO4/SDADC3_AIN5P,SDADC3_AIN6M", K9 PD8 (io) "PD8/SPI2_SCK/I2S2_CK,USART3_TX,TSC_G6_IO3/SDADC3_AIN6P", K10 PB15 (io) "PB15/SPI2_MOSI/I2S2_SD,TIM15_CH1N,TIM15_CH2,TIM12_CH2,TSC_G6_IO2/SDADC3_AIN7P,SDADC3_AIN8M,RTC_REFCLKIN", K11 PB14 (io) "PB14/SPI2_MISO/I2S2_MCK,USART3_RTS,TIM15_CH1,TIM12_CH1,TSC_G6_IO1/SDADC3_AIN8P", L2 PA0 (io) "PA0/USART2_CTS,TIM2_CH1_ETR,TIM5_CH1_ETR,TIM19_CH1,TSC_G1_IO1,COMP1_OUT/RTC_TAMPER2,WKUP1,ADC_IN0,COMP1_INM", L3 PA3 (io) "PA3/SPI3_MOSI,I2S3_SD,USART2_RX,TIM2_CH4,TIM15_CH2,TIM5_CH4,TIM19_CH4,TSC_G1_IO4/ADC_IN3,COMP2_INP", L4 PA6 (io) "PA6/SPI1_MISO/I2S1_MCK,COMP1_OUT,TIM3_CH1,TIM13_CH1,TIM16_CH1,TSC_G2_IO3/ADC_IN6,DAC2_OUT1", L5 PC5 (io) "PC5/TSC_G3_IO2,USART1_RX/ADC_IN15", L6 PB2 (io) "PB2/SDADC1_AIN4P,SDADC2_AIN6P", L7 PE8 (io) "PE8/SDADC1_AIN8P,SDADC2_AIN8P", L8 PE10 (io) "PE10/SDADC1_AIN2P", L9 PE12 (io) "PE12/SDADC1_AIN0P,SDADC2_AIN3P,SDADC2_AIN4M", L10 PB10 (io) "PB10/SPI2_SCK/I2S2_CK,USART3_TX,CEC,TSC_SYNC,TIM2_CH3/SDADC2_AIN0M", M2 PA1 (io) "PA1/SPI3_SCK/I2S3_CK,USART2_RTS,TIM2_CH2,TIM15_CH1N,TIM5_CH2,TIM19_CH2,TSC_G1_IO2/ADC_IN1,COMP1_INP,RTC_REF_CLK_IN", M3 PA4 (io) "PA4/SPI1_NSS/I2S1_WS,SPI3_NSS/I2S3_WS,USART2_CK,TIM3_CH2,TIM12_CH1,TSC_G2_IO1/ADC_IN4,DAC1_OUT1", M4 PA7 (io) "PA7/TSC_G2_IO4,TIM14_CH1,SPI1_MOSI/I2S1_SD,TIM17_CH1,TIM3_CH2,COMP2_OUT/ADC_IN7", M5 PB0 (io) "PB0/SPI1_MOSI/I2S1_SD,TIM3_CH3,TSC_G3_IO3,TIM3_CH2/ADC_IN8,SDADC1_AIN6P", M6 PB1 (io) "PB1/TIM3_CH4,TSC_G3_IO4/ADC_IN9,SDADC1_AIN5P,SDADC1_AIN6M", M7 PE7 (io) "PE7/SDADC1_AIN3P,SDADC1_AIN4M,SDADC2_AIN5P,SDADC2_AIN6M", M8 PE9 (io) "PE9/SDADC1_AIN7P,SDADC1_AIN8M,SDADC2_AIN7P,SDADC2_AIN8M", M9 PE11 (io) "PE11/SDADC1_AIN1P,SDADC1_AIN2M,SDADC2_AIN4P", M10 PE13 (io) "PE13/SDADC1_AIN0M,SDADC2_AIN2P", M11 PE14 (io) "PE14/SDADC2_AIN1P,SDADC2_AIN2M", M12 PE15 (io) "PE15/USART3_RX/SDADC2_AIN0P"
part B pins: C4 VDD_1 (power) "Digital power supply", D3 VSS_1 (power) "Ground", E2 VBAT (power) "Backup power supply", F11 VSS_3 (power) "Ground", F12 VSSSD (power) "VSS_3", G11 VDD_3 (power) "PF10", G12 VDDSD12 (power) "SDADC1 and SDADC2 power supply", H3 VDD_2 (power) "Digital power supply", K1 VSSA/VREF- (power) "Analog ground", K12 VREFSD+ (power) "External reference voltage for SDADC1, SDADC2, SDADC3 (positive input)", L1 VREF+ (power) "Reference voltage for ADC, COMP, DAC", L11 VREFSD- (power), L12 VDDSD3 (power) "SDADC3 power supply", M1 VDDA (power) "Analog power supply"

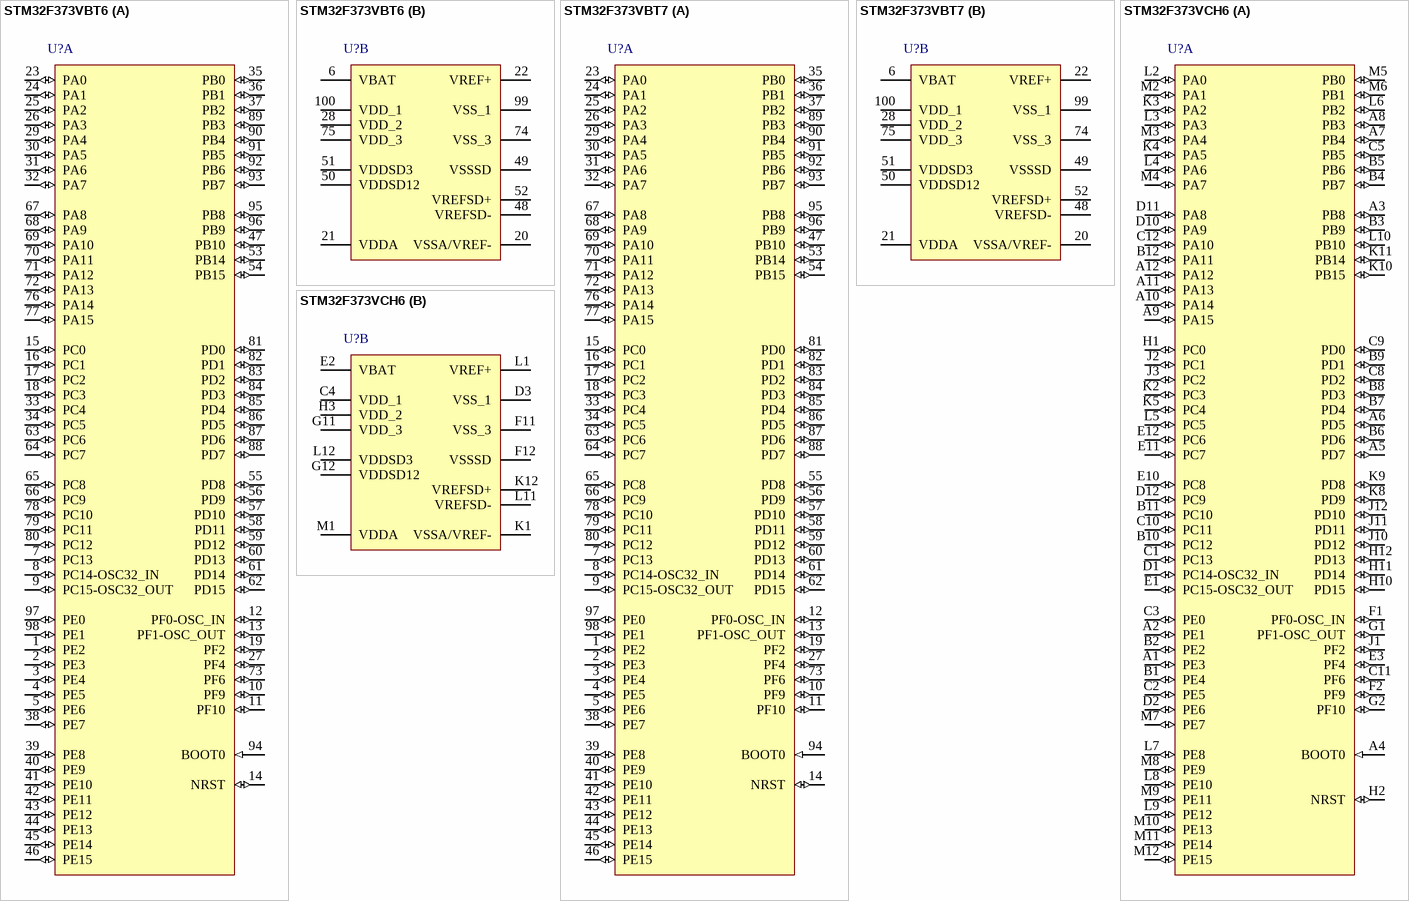
[diagram p5: symbols STM32F373VBT6 to STM32F373VCH6]

## STM32F373VBT6
designator U?
ARM Cortex-M4 32-bit MCU, 128 KB Flash, 24 KB Internal RAM, 84 I/Os, 100-pin LQFP, -40 to 85 degC, Tray
footprint STM-LQFP100_N (Thin QFP, 100-Leads, Body 14x14mm, Pitch 0.5mm, IPC Medium Density)
footprint STM-LQFP100_L (Thin QFP, 100-Leads, Body 14x14mm, Pitch 0.5mm, IPC High Density)
footprint STM-LQFP100_M (Thin QFP, 100-Leads, Body 14x14mm, Pitch 0.5mm, IPC Low Density)
footprint STM-LQFP100_V (Thin QFP, 100-Leads, Body 14x14mm, Pitch 0.5mm, ST Recommended)
part A pins: 1 PE2 (io) "PE2/TSC_G7_IO1,TRACECLK", 2 PE3 (io) "PE3/TSC_G7_IO2,TRACED0", 3 PE4 (io) "PE4/TSC_G7_IO3,TRACED1", 4 PE5 (io) "PE5/TSC_G7_IO4,TRACED2", 5 PE6 (io) "PE6/TRACED3/WKUP3,RTC_TAMPER3", 7 PC13 (io) "PC13/WKUP2_ALARM_OUT_CALIB_OUT_TIMESTAMP,RTC_TAMPER1", 8 PC14-OSC32_IN (io) "PC14-OSC32_IN/OSC32_IN", 9 PC15-OSC32_OUT (io) "PC15-OSC32_OUT/OSC32_OUT", 10 PF9 (io) "PF9/TIM14_CH1", 11 PF10 (io), 12 PF0-OSC_IN (io) "PF0-OSC_IN/I2C2_SDA/OSC_IN", 13 PF1-OSC_OUT (io) "PF1-OSC_OUT/I2C2_SCL/OSC_OUT", 14 NRST (io) "Device reset input / internal reset output (active low)", 15 PC0 (io) "PC0/TIM5_CH1_ETR/ADC_IN10", 16 PC1 (io) "PC1/TIM5_CH2/ADCIN11", 17 PC2 (io) "PC2/SPI2_MISO/I2S2_MCK,TIM5_CH3/ADC_IN12", 18 PC3 (io) "PC3/SPI2_MOSI/I2S2_SD,TIM5_CH4/ADC_IN13", 19 PF2 (io) "PF2/I2C2_SMBA", 23 PA0 (io) "PA0/USART2_CTS,TIM2_CH1_ETR,TIM5_CH1_ETR,TIM19_CH1,TSC_G1_IO1,COMP1_OUT/RTC_TAMPER2,WKUP1,ADC_IN0,COMP1_INM", 24 PA1 (io) "PA1/SPI3_SCK/I2S3_CK,USART2_RTS,TIM2_CH2,TIM15_CH1N,TIM5_CH2,TIM19_CH2,TSC_G1_IO2/ADC_IN1,COMP1_INP,RTC_REF_CLK_IN", 25 PA2 (io) "PA2/COMP2_OUT,SPI3_MISO/I2S3_MCK,USART2_TX,TIM2_CH3,TIM15_CH1,TIM5_CH3,TIM19_CH3,TSC_G1_IO3/ADC_IN2,COMP2_INM", 26 PA3 (io) "PA3/SPI3_MOSI,I2S3_SD,USART2_RX,TIM2_CH4,TIM15_CH2,TIM5_CH4,TIM19_CH4,TSC_G1_IO4/ADC_IN3,COMP2_INP", 27 PF4 (io), 29 PA4 (io) "PA4/SPI1_NSS/I2S1_WS,SPI3_NSS/I2S3_WS,USART2_CK,TIM3_CH2,TIM12_CH1,TSC_G2_IO1/ADC_IN4,DAC1_OUT1", 30 PA5 (io) "PA5/SPI1_SCK/I2S1_CK,CEC,TIM2_CH1_ETR,TIM14_CH1,TIM12_CH2,TSC_G2_IO2/ADC_IN5,DAC1_OUT2", 31 PA6 (io) "PA6/SPI1_MISO/I2S1_MCK,COMP1_OUT,TIM3_CH1,TIM13_CH1,TIM16_CH1,TSC_G2_IO3/ADC_IN6,DAC2_OUT1", 32 PA7 (io) "PA7/TSC_G2_IO4,TIM14_CH1,SPI1_MOSI/I2S1_SD,TIM17_CH1,TIM3_CH2,COMP2_OUT/ADC_IN7", 33 PC4 (io) "PC4/TIM13_CH1,TSC_G3_IO1,USART1_TX/ADC_IN14", 34 PC5 (io) "PC5/TSC_G3_IO2,USART1_RX/ADC_IN15", 35 PB0 (io) "PB0/SPI1_MOSI/I2S1_SD,TIM3_CH3,TSC_G3_IO3,TIM3_CH2/ADC_IN8,SDADC1_AIN6P", 36 PB1 (io) "PB1/TIM3_CH4,TSC_G3_IO4/ADC_IN9,SDADC1_AIN5P,SDADC1_AIN6M", 37 PB2 (io) "PB2/SDADC1_AIN4P,SDADC2_AIN6P", 38 PE7 (io) "PE7/SDADC1_AIN3P,SDADC1_AIN4M,SDADC2_AIN5P,SDADC2_AIN6M", 39 PE8 (io) "PE8/SDADC1_AIN8P,SDADC2_AIN8P", 40 PE9 (io) "PE9/SDADC1_AIN7P,SDADC1_AIN8M,SDADC2_AIN7P,SDADC2_AIN8M", 41 PE10 (io) "PE10/SDADC1_AIN2P", 42 PE11 (io) "PE11/SDADC1_AIN1P,SDADC1_AIN2M,SDADC2_AIN4P", 43 PE12 (io) "PE12/SDADC1_AIN0P,SDADC2_AIN3P,SDADC2_AIN4M", 44 PE13 (io) "PE13/SDADC1_AIN0M,SDADC2_AIN2P", 45 PE14 (io) "PE14/SDADC2_AIN1P,SDADC2_AIN2M", 46 PE15 (io) "PE15/USART3_RX/SDADC2_AIN0P", 47 PB10 (io) "PB10/SPI2_SCK/I2S2_CK,USART3_TX,CEC,TSC_SYNC,TIM2_CH3/SDADC2_AIN0M", 53 PB14 (io) "PB14/SPI2_MISO/I2S2_MCK,USART3_RTS,TIM15_CH1,TIM12_CH1,TSC_G6_IO1/SDADC3_AIN8P", 54 PB15 (io) "PB15/SPI2_MOSI/I2S2_SD,TIM15_CH1N,TIM15_CH2,TIM12_CH2,TSC_G6_IO2/SDADC3_AIN7P,SDADC3_AIN8M,RTC_REFCLKIN", 55 PD8 (io) "PD8/SPI2_SCK/I2S2_CK,USART3_TX,TSC_G6_IO3/SDADC3_AIN6P", 56 PD9 (io) "PD9/USART3_RX,TSC_G6_IO4/SDADC3_AIN5P,SDADC3_AIN6M", 57 PD10 (io) "PD10/USART3_CK/SDADC3_AIN4P", 58 PD11 (io) "PD11/USART3_CTS/SDADC3_AIN3P,SDADC3_AIN4M", 59 PD12 (io) "PD12/USART3_RTS,TIM4_CH1,TSC_G8_IO1/SDADC3_AIN2P", 60 PD13 (io) "PD13/TIM4_CH2,TSC_G8_IO2/SDADC3_AIN1P,SDADC3_AIN2M", 61 PD14 (io) "PD14/TIM4_CH3,TSC_G8_IO3/SDADC3_AIN0P", 62 PD15 (io) "PD15/TIM4_CH4,TSC_G8_IO4/SDADC3_AIN0M", 63 PC6 (io) "PC6/TIM3_CH1,SPI1_NSS/I2S1_WS", 64 PC7 (io) "PC7/TIM3_CH2,SPI1_SCK/I2S1_CK", 65 PC8 (io) "PC8/SPI1_MISO/I2S1_MCK,TIM3_CH3", 66 PC9 (io) "PC9/SPI1_MOSI/I2S1_SD,TIM3_CH4", 67 PA8 (io) "PA8/SPI2_SCK/I2S2_CK,I2C2_SMBA,USART1_CK,TIM4_ETR,TIM5_CH1_ETR,MCO", 68 PA9 (io) "PA9/SPI2_MISO/I2S2_MCK,I2C2_SCL,USART1_TX,TIM2_CH3,TIM15_BKIN,TIM13_CH1,TSC_G4_IO1", 69 PA10 (io) "PA10/SPI2_MOSI/I2S2_SD,I2C2_SDA,USART1_RX,TIM2_CH4,TIM17_BKIN,TIM14_CH1,TSC_G4_IO2", 70 PA11 (io) "PA11/SPI2_NSS/I2S2_WS,SPI1_NSS/I2S1_WS,USART1_CTS,CAN_RX,TIM4_CH1,USB_DM,TIM5_CH2,COMP1_OUT", 71 PA12 (io) "PA12/SPI1_SCK/I2S1_CK,USART1_RTS,CAN_TX,USB_DP,TIM16_CH1,TIM4_CH2,TIM5_CH3,COMP2_OUT", 72 PA13 (io) "PA13/SPI1_MISO/I2S1_MCK,USART3_CTS,IR_OUT,TIM16_CH1N,TIM4_CH3,TIM5_CH4,TSC_G4_IO3,SWDIO-JTMS", 73 PF6 (io) "PF6/SPI1_MOSI,I2S1_SD,USART3_RTS,TIM4_CH4,I2C2_SCL", 76 PA14 (io) "PA14/I2C1_SDA,TIM12_CH1,TSC_G4_IO4,SWCLK-JTCK", 77 PA15 (io) "PA15/SPI1_NSS/I2S1_WS,SPI3_NSS/I2S3_WS,I2C1_SCL,TIM2_CH1_ETR,TIM12_CH2,TSC_SYNC,JTDI", 78 PC10 (io) "PC10/SPI3_SCK/I2S3_CK,USART3_TX,TIM19_CH1", 79 PC11 (io) "PC11/SPI3_MISO/I2S3_MCK,USART3_RX,TIM19_CH2", 80 PC12 (io) "PC12/SPI3_MOSI/I2S3_SD,USART3_CK,TIM19_CH3", 81 PD0 (io) "PD0/CAN_RX,TIM19_CH4", 82 PD1 (io) "PD1/CAN_TX,TIM19_ETR", 83 PD2 (io) "PD2/TIM3_ETR", 84 PD3 (io) "PD3/SPI2_MISO/I2S2_MCK,USART2_CTS", 85 PD4 (io) "PD4/SPI2_MOSI/I2S2_SD,USART2_RTS", 86 PD5 (io) "PD5/USART2_TX", 87 PD6 (io) "PD6/SPI2_NSS/I2S2_WS,USART2_RX", 88 PD7 (io) "PD7/SPI2_SCK/I2S2_CK,USART2_CK", 89 PB3 (io) "PB3/SPI1_SCK/I2S1_CK,SPI3_SCK/I2S3_CK,USART2_TX,TIM2_CH2,TIM3_ETR,TIM4_ETR,TIM13_CH1,TSC_G5_IO1,JTDO-TRACESWO", 90 PB4 (io) "PB4/SPI1_MISO/I2S1_MCK,SPI3_MISO/I2S3_MCK,USART2_RX,TIM16_CH1,TIM3_CH1,TIM17_BKIN,TIM15_CH1N,TSC_G5_IO2,NJTRST", 91 PB5 (io) "PB5/SPI1_MOSI/I2S1_SD,SPI3_MOSI/I2S3_SD,I2C1_SMBAI,USART2_CK,TIM16_BKIN,TIM3_CH2,TIM17_CH1,TIM19_ETR", 92 PB6 (io) "PB6/I2C1_SCL,USART1_TX,TIM16_CH1N,TIM3_CH3,TIM4_CH1,TIM19_CH1,TIM15_CH1,TSC_G5_IO3", 93 PB7 (io) "PB7/I2C1_SDA,USART1_RX,TIM17_CH1N,TIM3_CH4,TIM4_CH2,TIM19_CH2,TIM15_CH2,TSC_G5_IO4", 94 BOOT0 (in) "Boot memory selection", 95 PB8 (io) "PB8/SPI2_SCK/I2S2_CK,I2C1_SCL,USART3_TX,CAN_RX,CEC,TIM16_CH1,TIM4_CH3,TIM19_CH3,COMP1_OUT,TSC_SYNC", 96 PB9 (io) "PB9/SPI2_NSS/I2S2_WS,I2C1_SDA,USART3_RX,CAN_TX,IR_OUT,TIM17_CH1,TIM4_CH4,TIM19_CH4,COMP2_OUT", 97 PE0 (io) "PE0/USART1_TX,TIM4_ETR", 98 PE1 (io) "PE1/USART1_RX"
part B pins: 6 VBAT (power) "Backup power supply", 20 VSSA/VREF- (power) "Analog ground", 21 VDDA (power) "Analog power supply", 22 VREF+ (power) "Reference voltage for ADC, COMP, DAC", 28 VDD_2 (power) "Digital power supply", 48 VREFSD- (power) "External reference voltage for SDADC1, SDADC2, SDADC3 (negative input)", 49 VSSSD (power) "SDADC1, SDADC2, SDADC3 ground", 50 VDDSD12 (power) "SDADC1 and SDADC2 power supply", 51 VDDSD3 (power) "SDADC3 power supply", 52 VREFSD+ (power) "External reference voltage for SDADC1, SDADC2, SDADC3 (positive input)", 74 VSS_3 (power) "Ground", 75 VDD_3 (power) "Digital power supply", 99 VSS_1 (power) "Ground", 100 VDD_1 (power) "Digital power supply"

## STM32F373VBT7
designator U?
ARM Cortex-M4 32-bit MCU, 128 KB Flash, 24 KB Internal RAM, 84 I/Os, 100-pin LQFP, -40 to 105 degC, Tray
footprint STM-LQFP100_N (Thin QFP, 100-Leads, Body 14x14mm, Pitch 0.5mm, IPC Medium Density)
footprint STM-LQFP100_L (Thin QFP, 100-Leads, Body 14x14mm, Pitch 0.5mm, IPC High Density)
footprint STM-LQFP100_M (Thin QFP, 100-Leads, Body 14x14mm, Pitch 0.5mm, IPC Low Density)
footprint STM-LQFP100_V (Thin QFP, 100-Leads, Body 14x14mm, Pitch 0.5mm, ST Recommended)
part A pins: 1 PE2 (io) "PE2/TSC_G7_IO1,TRACECLK", 2 PE3 (io) "PE3/TSC_G7_IO2,TRACED0", 3 PE4 (io) "PE4/TSC_G7_IO3,TRACED1", 4 PE5 (io) "PE5/TSC_G7_IO4,TRACED2", 5 PE6 (io) "PE6/TRACED3/WKUP3,RTC_TAMPER3", 7 PC13 (io) "PC13/WKUP2_ALARM_OUT_CALIB_OUT_TIMESTAMP,RTC_TAMPER1", 8 PC14-OSC32_IN (io) "PC14-OSC32_IN/OSC32_IN", 9 PC15-OSC32_OUT (io) "PC15-OSC32_OUT/OSC32_OUT", 10 PF9 (io) "PF9/TIM14_CH1", 11 PF10 (io), 12 PF0-OSC_IN (io) "PF0-OSC_IN/I2C2_SDA/OSC_IN", 13 PF1-OSC_OUT (io) "PF1-OSC_OUT/I2C2_SCL/OSC_OUT", 14 NRST (io) "Device reset input / internal reset output (active low)", 15 PC0 (io) "PC0/TIM5_CH1_ETR/ADC_IN10", 16 PC1 (io) "PC1/TIM5_CH2/ADCIN11", 17 PC2 (io) "PC2/SPI2_MISO/I2S2_MCK,TIM5_CH3/ADC_IN12", 18 PC3 (io) "PC3/SPI2_MOSI/I2S2_SD,TIM5_CH4/ADC_IN13", 19 PF2 (io) "PF2/I2C2_SMBA", 23 PA0 (io) "PA0/USART2_CTS,TIM2_CH1_ETR,TIM5_CH1_ETR,TIM19_CH1,TSC_G1_IO1,COMP1_OUT/RTC_TAMPER2,WKUP1,ADC_IN0,COMP1_INM", 24 PA1 (io) "PA1/SPI3_SCK/I2S3_CK,USART2_RTS,TIM2_CH2,TIM15_CH1N,TIM5_CH2,TIM19_CH2,TSC_G1_IO2/ADC_IN1,COMP1_INP,RTC_REF_CLK_IN", 25 PA2 (io) "PA2/COMP2_OUT,SPI3_MISO/I2S3_MCK,USART2_TX,TIM2_CH3,TIM15_CH1,TIM5_CH3,TIM19_CH3,TSC_G1_IO3/ADC_IN2,COMP2_INM", 26 PA3 (io) "PA3/SPI3_MOSI,I2S3_SD,USART2_RX,TIM2_CH4,TIM15_CH2,TIM5_CH4,TIM19_CH4,TSC_G1_IO4/ADC_IN3,COMP2_INP", 27 PF4 (io), 29 PA4 (io) "PA4/SPI1_NSS/I2S1_WS,SPI3_NSS/I2S3_WS,USART2_CK,TIM3_CH2,TIM12_CH1,TSC_G2_IO1/ADC_IN4,DAC1_OUT1", 30 PA5 (io) "PA5/SPI1_SCK/I2S1_CK,CEC,TIM2_CH1_ETR,TIM14_CH1,TIM12_CH2,TSC_G2_IO2/ADC_IN5,DAC1_OUT2", 31 PA6 (io) "PA6/SPI1_MISO/I2S1_MCK,COMP1_OUT,TIM3_CH1,TIM13_CH1,TIM16_CH1,TSC_G2_IO3/ADC_IN6,DAC2_OUT1", 32 PA7 (io) "PA7/TSC_G2_IO4,TIM14_CH1,SPI1_MOSI/I2S1_SD,TIM17_CH1,TIM3_CH2,COMP2_OUT/ADC_IN7", 33 PC4 (io) "PC4/TIM13_CH1,TSC_G3_IO1,USART1_TX/ADC_IN14", 34 PC5 (io) "PC5/TSC_G3_IO2,USART1_RX/ADC_IN15", 35 PB0 (io) "PB0/SPI1_MOSI/I2S1_SD,TIM3_CH3,TSC_G3_IO3,TIM3_CH2/ADC_IN8,SDADC1_AIN6P", 36 PB1 (io) "PB1/TIM3_CH4,TSC_G3_IO4/ADC_IN9,SDADC1_AIN5P,SDADC1_AIN6M", 37 PB2 (io) "PB2/SDADC1_AIN4P,SDADC2_AIN6P", 38 PE7 (io) "PE7/SDADC1_AIN3P,SDADC1_AIN4M,SDADC2_AIN5P,SDADC2_AIN6M", 39 PE8 (io) "PE8/SDADC1_AIN8P,SDADC2_AIN8P", 40 PE9 (io) "PE9/SDADC1_AIN7P,SDADC1_AIN8M,SDADC2_AIN7P,SDADC2_AIN8M", 41 PE10 (io) "PE10/SDADC1_AIN2P", 42 PE11 (io) "PE11/SDADC1_AIN1P,SDADC1_AIN2M,SDADC2_AIN4P", 43 PE12 (io) "PE12/SDADC1_AIN0P,SDADC2_AIN3P,SDADC2_AIN4M", 44 PE13 (io) "PE13/SDADC1_AIN0M,SDADC2_AIN2P", 45 PE14 (io) "PE14/SDADC2_AIN1P,SDADC2_AIN2M", 46 PE15 (io) "PE15/USART3_RX/SDADC2_AIN0P", 47 PB10 (io) "PB10/SPI2_SCK/I2S2_CK,USART3_TX,CEC,TSC_SYNC,TIM2_CH3/SDADC2_AIN0M", 53 PB14 (io) "PB14/SPI2_MISO/I2S2_MCK,USART3_RTS,TIM15_CH1,TIM12_CH1,TSC_G6_IO1/SDADC3_AIN8P", 54 PB15 (io) "PB15/SPI2_MOSI/I2S2_SD,TIM15_CH1N,TIM15_CH2,TIM12_CH2,TSC_G6_IO2/SDADC3_AIN7P,SDADC3_AIN8M,RTC_REFCLKIN", 55 PD8 (io) "PD8/SPI2_SCK/I2S2_CK,USART3_TX,TSC_G6_IO3/SDADC3_AIN6P", 56 PD9 (io) "PD9/USART3_RX,TSC_G6_IO4/SDADC3_AIN5P,SDADC3_AIN6M", 57 PD10 (io) "PD10/USART3_CK/SDADC3_AIN4P", 58 PD11 (io) "PD11/USART3_CTS/SDADC3_AIN3P,SDADC3_AIN4M", 59 PD12 (io) "PD12/USART3_RTS,TIM4_CH1,TSC_G8_IO1/SDADC3_AIN2P", 60 PD13 (io) "PD13/TIM4_CH2,TSC_G8_IO2/SDADC3_AIN1P,SDADC3_AIN2M", 61 PD14 (io) "PD14/TIM4_CH3,TSC_G8_IO3/SDADC3_AIN0P", 62 PD15 (io) "PD15/TIM4_CH4,TSC_G8_IO4/SDADC3_AIN0M", 63 PC6 (io) "PC6/TIM3_CH1,SPI1_NSS/I2S1_WS", 64 PC7 (io) "PC7/TIM3_CH2,SPI1_SCK/I2S1_CK", 65 PC8 (io) "PC8/SPI1_MISO/I2S1_MCK,TIM3_CH3", 66 PC9 (io) "PC9/SPI1_MOSI/I2S1_SD,TIM3_CH4", 67 PA8 (io) "PA8/SPI2_SCK/I2S2_CK,I2C2_SMBA,USART1_CK,TIM4_ETR,TIM5_CH1_ETR,MCO", 68 PA9 (io) "PA9/SPI2_MISO/I2S2_MCK,I2C2_SCL,USART1_TX,TIM2_CH3,TIM15_BKIN,TIM13_CH1,TSC_G4_IO1", 69 PA10 (io) "PA10/SPI2_MOSI/I2S2_SD,I2C2_SDA,USART1_RX,TIM2_CH4,TIM17_BKIN,TIM14_CH1,TSC_G4_IO2", 70 PA11 (io) "PA11/SPI2_NSS/I2S2_WS,SPI1_NSS/I2S1_WS,USART1_CTS,CAN_RX,TIM4_CH1,USB_DM,TIM5_CH2,COMP1_OUT", 71 PA12 (io) "PA12/SPI1_SCK/I2S1_CK,USART1_RTS,CAN_TX,USB_DP,TIM16_CH1,TIM4_CH2,TIM5_CH3,COMP2_OUT", 72 PA13 (io) "PA13/SPI1_MISO/I2S1_MCK,USART3_CTS,IR_OUT,TIM16_CH1N,TIM4_CH3,TIM5_CH4,TSC_G4_IO3,SWDIO-JTMS", 73 PF6 (io) "PF6/SPI1_MOSI,I2S1_SD,USART3_RTS,TIM4_CH4,I2C2_SCL", 76 PA14 (io) "PA14/I2C1_SDA,TIM12_CH1,TSC_G4_IO4,SWCLK-JTCK", 77 PA15 (io) "PA15/SPI1_NSS/I2S1_WS,SPI3_NSS/I2S3_WS,I2C1_SCL,TIM2_CH1_ETR,TIM12_CH2,TSC_SYNC,JTDI", 78 PC10 (io) "PC10/SPI3_SCK/I2S3_CK,USART3_TX,TIM19_CH1", 79 PC11 (io) "PC11/SPI3_MISO/I2S3_MCK,USART3_RX,TIM19_CH2", 80 PC12 (io) "PC12/SPI3_MOSI/I2S3_SD,USART3_CK,TIM19_CH3", 81 PD0 (io) "PD0/CAN_RX,TIM19_CH4", 82 PD1 (io) "PD1/CAN_TX,TIM19_ETR", 83 PD2 (io) "PD2/TIM3_ETR", 84 PD3 (io) "PD3/SPI2_MISO/I2S2_MCK,USART2_CTS", 85 PD4 (io) "PD4/SPI2_MOSI/I2S2_SD,USART2_RTS", 86 PD5 (io) "PD5/USART2_TX", 87 PD6 (io) "PD6/SPI2_NSS/I2S2_WS,USART2_RX", 88 PD7 (io) "PD7/SPI2_SCK/I2S2_CK,USART2_CK", 89 PB3 (io) "PB3/SPI1_SCK/I2S1_CK,SPI3_SCK/I2S3_CK,USART2_TX,TIM2_CH2,TIM3_ETR,TIM4_ETR,TIM13_CH1,TSC_G5_IO1,JTDO-TRACESWO", 90 PB4 (io) "PB4/SPI1_MISO/I2S1_MCK,SPI3_MISO/I2S3_MCK,USART2_RX,TIM16_CH1,TIM3_CH1,TIM17_BKIN,TIM15_CH1N,TSC_G5_IO2,NJTRST", 91 PB5 (io) "PB5/SPI1_MOSI/I2S1_SD,SPI3_MOSI/I2S3_SD,I2C1_SMBAI,USART2_CK,TIM16_BKIN,TIM3_CH2,TIM17_CH1,TIM19_ETR", 92 PB6 (io) "PB6/I2C1_SCL,USART1_TX,TIM16_CH1N,TIM3_CH3,TIM4_CH1,TIM19_CH1,TIM15_CH1,TSC_G5_IO3", 93 PB7 (io) "PB7/I2C1_SDA,USART1_RX,TIM17_CH1N,TIM3_CH4,TIM4_CH2,TIM19_CH2,TIM15_CH2,TSC_G5_IO4", 94 BOOT0 (in) "Boot memory selection", 95 PB8 (io) "PB8/SPI2_SCK/I2S2_CK,I2C1_SCL,USART3_TX,CAN_RX,CEC,TIM16_CH1,TIM4_CH3,TIM19_CH3,COMP1_OUT,TSC_SYNC", 96 PB9 (io) "PB9/SPI2_NSS/I2S2_WS,I2C1_SDA,USART3_RX,CAN_TX,IR_OUT,TIM17_CH1,TIM4_CH4,TIM19_CH4,COMP2_OUT", 97 PE0 (io) "PE0/USART1_TX,TIM4_ETR", 98 PE1 (io) "PE1/USART1_RX"
part B pins: 6 VBAT (power) "Backup power supply", 20 VSSA/VREF- (power) "Analog ground", 21 VDDA (power) "Analog power supply", 22 VREF+ (power) "Reference voltage for ADC, COMP, DAC", 28 VDD_2 (power) "Digital power supply", 48 VREFSD- (power) "External reference voltage for SDADC1, SDADC2, SDADC3 (negative input)", 49 VSSSD (power) "SDADC1, SDADC2, SDADC3 ground", 50 VDDSD12 (power) "SDADC1 and SDADC2 power supply", 51 VDDSD3 (power) "SDADC3 power supply", 52 VREFSD+ (power) "External reference voltage for SDADC1, SDADC2, SDADC3 (positive input)", 74 VSS_3 (power) "Ground", 75 VDD_3 (power) "Digital power supply", 99 VSS_1 (power) "Ground", 100 VDD_1 (power) "Digital power supply"

## STM32F373VCH6
designator U?
ARM Cortex-M4 32-bit MCU, 256 KB Flash, 32 KB Internal RAM, 84 I/Os, 100-pin UFBGA, -40 to 85 degC, Tray
footprint STM-UFBGA100 (BGA, 100-Balls, Body 7x7mm, Pitch 0.5mm)
part A pins: A1 PE3 (io) "PE3/TSC_G7_IO2,TRACED0", A2 PE1 (io) "PE1/USART1_RX", A3 PB8 (io) "PB8/SPI2_SCK/I2S2_CK,I2C1_SCL,USART3_TX,CAN_RX,CEC,TIM16_CH1,TIM4_CH3,TIM19_CH3,COMP1_OUT,TSC_SYNC", A4 BOOT0 (in) "Boot memory selection", A5 PD7 (io) "PD7/SPI2_SCK/I2S2_CK,USART2_CK", A6 PD5 (io) "PD5/USART2_TX", A7 PB4 (io) "PB4/SPI1_MISO/I2S1_MCK,SPI3_MISO/I2S3_MCK,USART2_RX,TIM16_CH1,TIM3_CH1,TIM17_BKIN,TIM15_CH1N,TSC_G5_IO2,NJTRST", A8 PB3 (io) "PB3/SPI1_SCK/I2S1_CK,SPI3_SCK/I2S3_CK,USART2_TX,TIM2_CH2,TIM3_ETR,TIM4_ETR,TIM13_CH1,TSC_G5_IO1,JTDO-TRACESWO", A9 PA15 (io) "PA15/SPI1_NSS/I2S1_WS,SPI3_NSS/I2S3_WS,I2C1_SCL,TIM2_CH1_ETR,TIM12_CH2,TSC_SYNC,JTDI", A10 PA14 (io) "PA14/I2C1_SDA,TIM12_CH1,TSC_G4_IO4,SWCLK-JTCK", A11 PA13 (io) "PA13/SPI1_MISO/I2S1_MCK,USART3_CTS,IR_OUT,TIM16_CH1N,TIM4_CH3,TIM5_CH4,TSC_G4_IO3,SWDIO-JTMS", A12 PA12 (io) "PA12/SPI1_SCK/I2S1_CK,USART1_RTS,CAN_TX,USB_DP,TIM16_CH1,TIM4_CH2,TIM5_CH3,COMP2_OUT", B1 PE4 (io) "PE4/TSC_G7_IO3,TRACED1", B2 PE2 (io) "PE2/TSC_G7_IO1,TRACECLK", B3 PB9 (io) "PB9/SPI2_NSS/I2S2_WS,I2C1_SDA,USART3_RX,CAN_TX,IR_OUT,TIM17_CH1,TIM4_CH4,TIM19_CH4,COMP2_OUT", B4 PB7 (io) "PB7/I2C1_SDA,USART1_RX,TIM17_CH1N,TIM3_CH4,TIM4_CH2,TIM19_CH2,TIM15_CH2,TSC_G5_IO4", B5 PB6 (io) "PB6/I2C1_SCL,USART1_TX,TIM16_CH1N,TIM3_CH3,TIM4_CH1,TIM19_CH1,TIM15_CH1,TSC_G5_IO3", B6 PD6 (io) "PD6/SPI2_NSS/I2S2_WS,USART2_RX", B7 PD4 (io) "PD4/SPI2_MOSI/I2S2_SD,USART2_RTS", B8 PD3 (io) "PD3/SPI2_MISO/I2S2_MCK,USART2_CTS", B9 PD1 (io) "PD1/CAN_TX,TIM19_ETR", B10 PC12 (io) "PC12/SPI3_MOSI/I2S3_SD,USART3_CK,TIM19_CH3", B11 PC10 (io) "PC10/SPI3_SCK/I2S3_CK,USART3_TX,TIM19_CH1", B12 PA11 (io) "PA11/SPI2_NSS/I2S2_WS,SPI1_NSS/I2S1_WS,USART1_CTS,CAN_RX,TIM4_CH1,USB_DM,TIM5_CH2,COMP1_OUT", C1 PC13 (io) "PC13/WKUP2_ALARM_OUT_CALIB_OUT_TIMESTAMP,RTC_TAMPER1", C2 PE5 (io) "PE5/TSC_G7_IO4,TRACED2", C3 PE0 (io) "PE0/USART1_TX,TIM4_ETR", C5 PB5 (io) "PB5/SPI1_MOSI/I2S1_SD,SPI3_MOSI/I2S3_SD,I2C1_SMBAI,USART2_CK,TIM16_BKIN,TIM3_CH2,TIM17_CH1,TIM19_ETR", C8 PD2 (io) "PD2/TIM3_ETR", C9 PD0 (io) "PD0/CAN_RX,TIM19_CH4", C10 PC11 (io) "PC11/SPI3_MISO/I2S3_MCK,USART3_RX,TIM19_CH2", C11 PF6 (io) "PF6/SPI1_MOSI,I2S1_SD,USART3_RTS,TIM4_CH4,I2C2_SCL", C12 PA10 (io) "PA10/SPI2_MOSI/I2S2_SD,I2C2_SDA,USART1_RX,TIM2_CH4,TIM17_BKIN,TIM14_CH1,TSC_G4_IO2", D1 PC14-OSC32_IN (io) "PC14-OSC32_IN/OSC32_IN", D2 PE6 (io) "PE6/TRACED3/WKUP3,RTC_TAMPER3", D10 PA9 (io) "PA9/SPI2_MISO/I2S2_MCK,I2C2_SCL,USART1_TX,TIM2_CH3,TIM15_BKIN,TIM13_CH1,TSC_G4_IO1", D11 PA8 (io) "PA8/SPI2_SCK/I2S2_CK,I2C2_SMBA,USART1_CK,TIM4_ETR,TIM5_CH1_ETR,MCO", D12 PC9 (io) "PC9/SPI1_MOSI/I2S1_SD,TIM3_CH4", E1 PC15-OSC32_OUT (io) "PC15-OSC32_OUT/OSC32_OUT", E3 PF4 (io), E10 PC8 (io) "PC8/SPI1_MISO/I2S1_MCK,TIM3_CH3", E11 PC7 (io) "PC7/TIM3_CH2,SPI1_SCK/I2S1_CK", E12 PC6 (io) "PC6/TIM3_CH1,SPI1_NSS/I2S1_WS", F1 PF0-OSC_IN (io) "PF0-OSC_IN/I2C2_SDA/OSC_IN", F2 PF9 (io) "PF9/TIM14_CH1", G1 PF1-OSC_OUT (io) "VSSSD", G2 PF10 (io) "PF1-OSC_OUT/I2C2_SCL/OSC_OUT", H1 PC0 (io) "PC0/TIM5_CH1_ETR/ADC_IN10", H2 NRST (io) "Device reset input / internal reset output (active low)", H10 PD15 (io) "PD15/TIM4_CH4,TSC_G8_IO4/SDADC3_AIN0M", H11 PD14 (io) "PD14/TIM4_CH3,TSC_G8_IO3/SDADC3_AIN0P", H12 PD13 (io) "PD13/TIM4_CH2,TSC_G8_IO2/SDADC3_AIN1P,SDADC3_AIN2M", J1 PF2 (io) "PF2/I2C2_SMBA", J2 PC1 (io) "PC1/TIM5_CH2/ADCIN11", J3 PC2 (io) "PC2/SPI2_MISO/I2S2_MCK,TIM5_CH3/ADC_IN12", J10 PD12 (io) "PD12/USART3_RTS,TIM4_CH1,TSC_G8_IO1/SDADC3_AIN2P", J11 PD11 (io) "PD11/USART3_CTS/SDADC3_AIN3P,SDADC3_AIN4M", J12 PD10 (io) "PD10/USART3_CK/SDADC3_AIN4P", K2 PC3 (io) "PC3/SPI2_MOSI/I2S2_SD,TIM5_CH4/ADC_IN13", K3 PA2 (io) "PA2/COMP2_OUT,SPI3_MISO/I2S3_MCK,USART2_TX,TIM2_CH3,TIM15_CH1,TIM5_CH3,TIM19_CH3,TSC_G1_IO3/ADC_IN2,COMP2_INM", K4 PA5 (io) "PA5/SPI1_SCK/I2S1_CK,CEC,TIM2_CH1_ETR,TIM14_CH1,TIM12_CH2,TSC_G2_IO2/ADC_IN5,DAC1_OUT2", K5 PC4 (io) "PC4/TIM13_CH1,TSC_G3_IO1,USART1_TX/ADC_IN14", K8 PD9 (io) "PD9/USART3_RX,TSC_G6_IO4/SDADC3_AIN5P,SDADC3_AIN6M", K9 PD8 (io) "PD8/SPI2_SCK/I2S2_CK,USART3_TX,TSC_G6_IO3/SDADC3_AIN6P", K10 PB15 (io) "PB15/SPI2_MOSI/I2S2_SD,TIM15_CH1N,TIM15_CH2,TIM12_CH2,TSC_G6_IO2/SDADC3_AIN7P,SDADC3_AIN8M,RTC_REFCLKIN", K11 PB14 (io) "PB14/SPI2_MISO/I2S2_MCK,USART3_RTS,TIM15_CH1,TIM12_CH1,TSC_G6_IO1/SDADC3_AIN8P", L2 PA0 (io) "PA0/USART2_CTS,TIM2_CH1_ETR,TIM5_CH1_ETR,TIM19_CH1,TSC_G1_IO1,COMP1_OUT/RTC_TAMPER2,WKUP1,ADC_IN0,COMP1_INM", L3 PA3 (io) "PA3/SPI3_MOSI,I2S3_SD,USART2_RX,TIM2_CH4,TIM15_CH2,TIM5_CH4,TIM19_CH4,TSC_G1_IO4/ADC_IN3,COMP2_INP", L4 PA6 (io) "PA6/SPI1_MISO/I2S1_MCK,COMP1_OUT,TIM3_CH1,TIM13_CH1,TIM16_CH1,TSC_G2_IO3/ADC_IN6,DAC2_OUT1", L5 PC5 (io) "PC5/TSC_G3_IO2,USART1_RX/ADC_IN15", L6 PB2 (io) "PB2/SDADC1_AIN4P,SDADC2_AIN6P", L7 PE8 (io) "PE8/SDADC1_AIN8P,SDADC2_AIN8P", L8 PE10 (io) "PE10/SDADC1_AIN2P", L9 PE12 (io) "PE12/SDADC1_AIN0P,SDADC2_AIN3P,SDADC2_AIN4M", L10 PB10 (io) "PB10/SPI2_SCK/I2S2_CK,USART3_TX,CEC,TSC_SYNC,TIM2_CH3/SDADC2_AIN0M", M2 PA1 (io) "PA1/SPI3_SCK/I2S3_CK,USART2_RTS,TIM2_CH2,TIM15_CH1N,TIM5_CH2,TIM19_CH2,TSC_G1_IO2/ADC_IN1,COMP1_INP,RTC_REF_CLK_IN", M3 PA4 (io) "PA4/SPI1_NSS/I2S1_WS,SPI3_NSS/I2S3_WS,USART2_CK,TIM3_CH2,TIM12_CH1,TSC_G2_IO1/ADC_IN4,DAC1_OUT1", M4 PA7 (io) "PA7/TSC_G2_IO4,TIM14_CH1,SPI1_MOSI/I2S1_SD,TIM17_CH1,TIM3_CH2,COMP2_OUT/ADC_IN7", M5 PB0 (io) "PB0/SPI1_MOSI/I2S1_SD,TIM3_CH3,TSC_G3_IO3,TIM3_CH2/ADC_IN8,SDADC1_AIN6P", M6 PB1 (io) "PB1/TIM3_CH4,TSC_G3_IO4/ADC_IN9,SDADC1_AIN5P,SDADC1_AIN6M", M7 PE7 (io) "PE7/SDADC1_AIN3P,SDADC1_AIN4M,SDADC2_AIN5P,SDADC2_AIN6M", M8 PE9 (io) "PE9/SDADC1_AIN7P,SDADC1_AIN8M,SDADC2_AIN7P,SDADC2_AIN8M", M9 PE11 (io) "PE11/SDADC1_AIN1P,SDADC1_AIN2M,SDADC2_AIN4P", M10 PE13 (io) "PE13/SDADC1_AIN0M,SDADC2_AIN2P", M11 PE14 (io) "PE14/SDADC2_AIN1P,SDADC2_AIN2M", M12 PE15 (io) "PE15/USART3_RX/SDADC2_AIN0P"
part B pins: C4 VDD_1 (power) "Digital power supply", D3 VSS_1 (power) "Ground", E2 VBAT (power) "Backup power supply", F11 VSS_3 (power) "Ground", F12 VSSSD (power) "VSS_3", G11 VDD_3 (power) "PF10", G12 VDDSD12 (power) "SDADC1 and SDADC2 power supply", H3 VDD_2 (power) "Digital power supply", K1 VSSA/VREF- (power) "Analog ground", K12 VREFSD+ (power) "External reference voltage for SDADC1, SDADC2, SDADC3 (positive input)", L1 VREF+ (power) "Reference voltage for ADC, COMP, DAC", L11 VREFSD- (power), L12 VDDSD3 (power) "SDADC3 power supply", M1 VDDA (power) "Analog power supply"

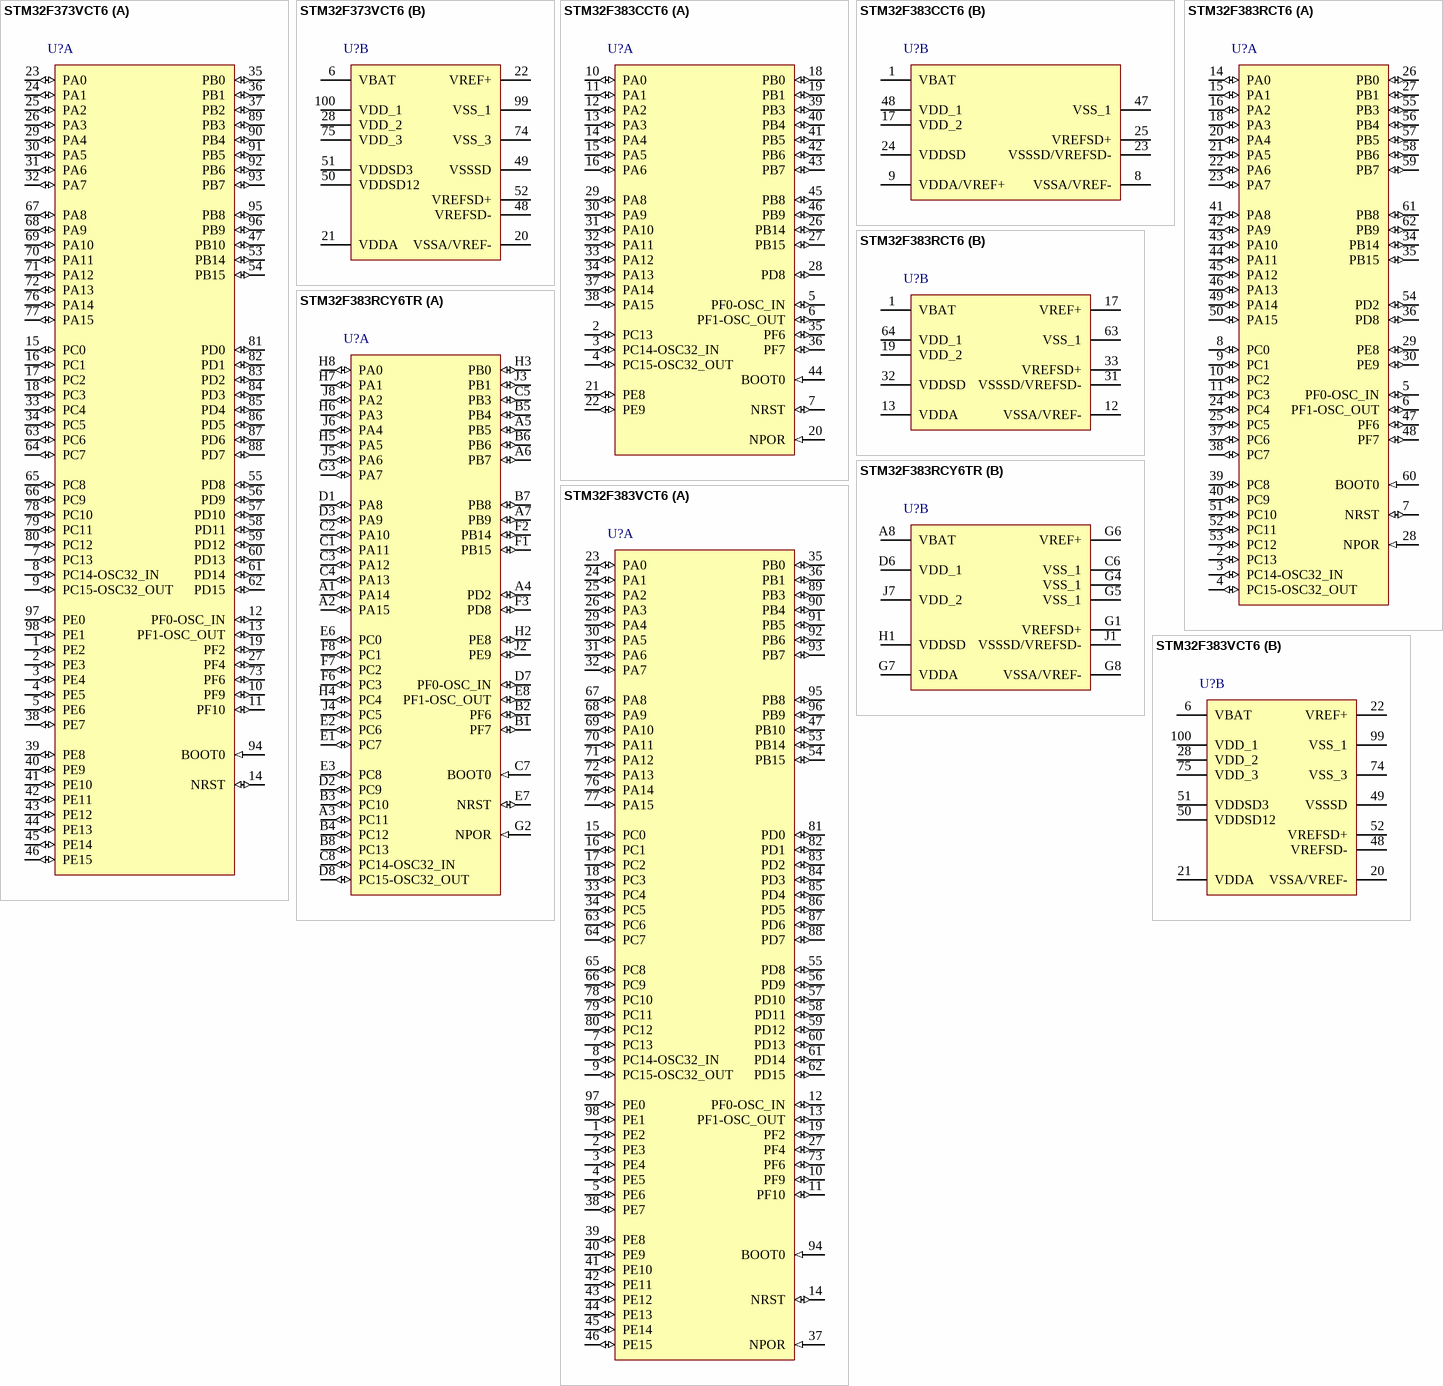
[diagram p6: symbols STM32F373VCT6 to STM32F383VCT6]